# Altium schematic symbol library Integrated circuits.SchLib: 329 symbols (part 1 of 5)
Pins are listed as number, name and electrical type; pins without a type are passive.

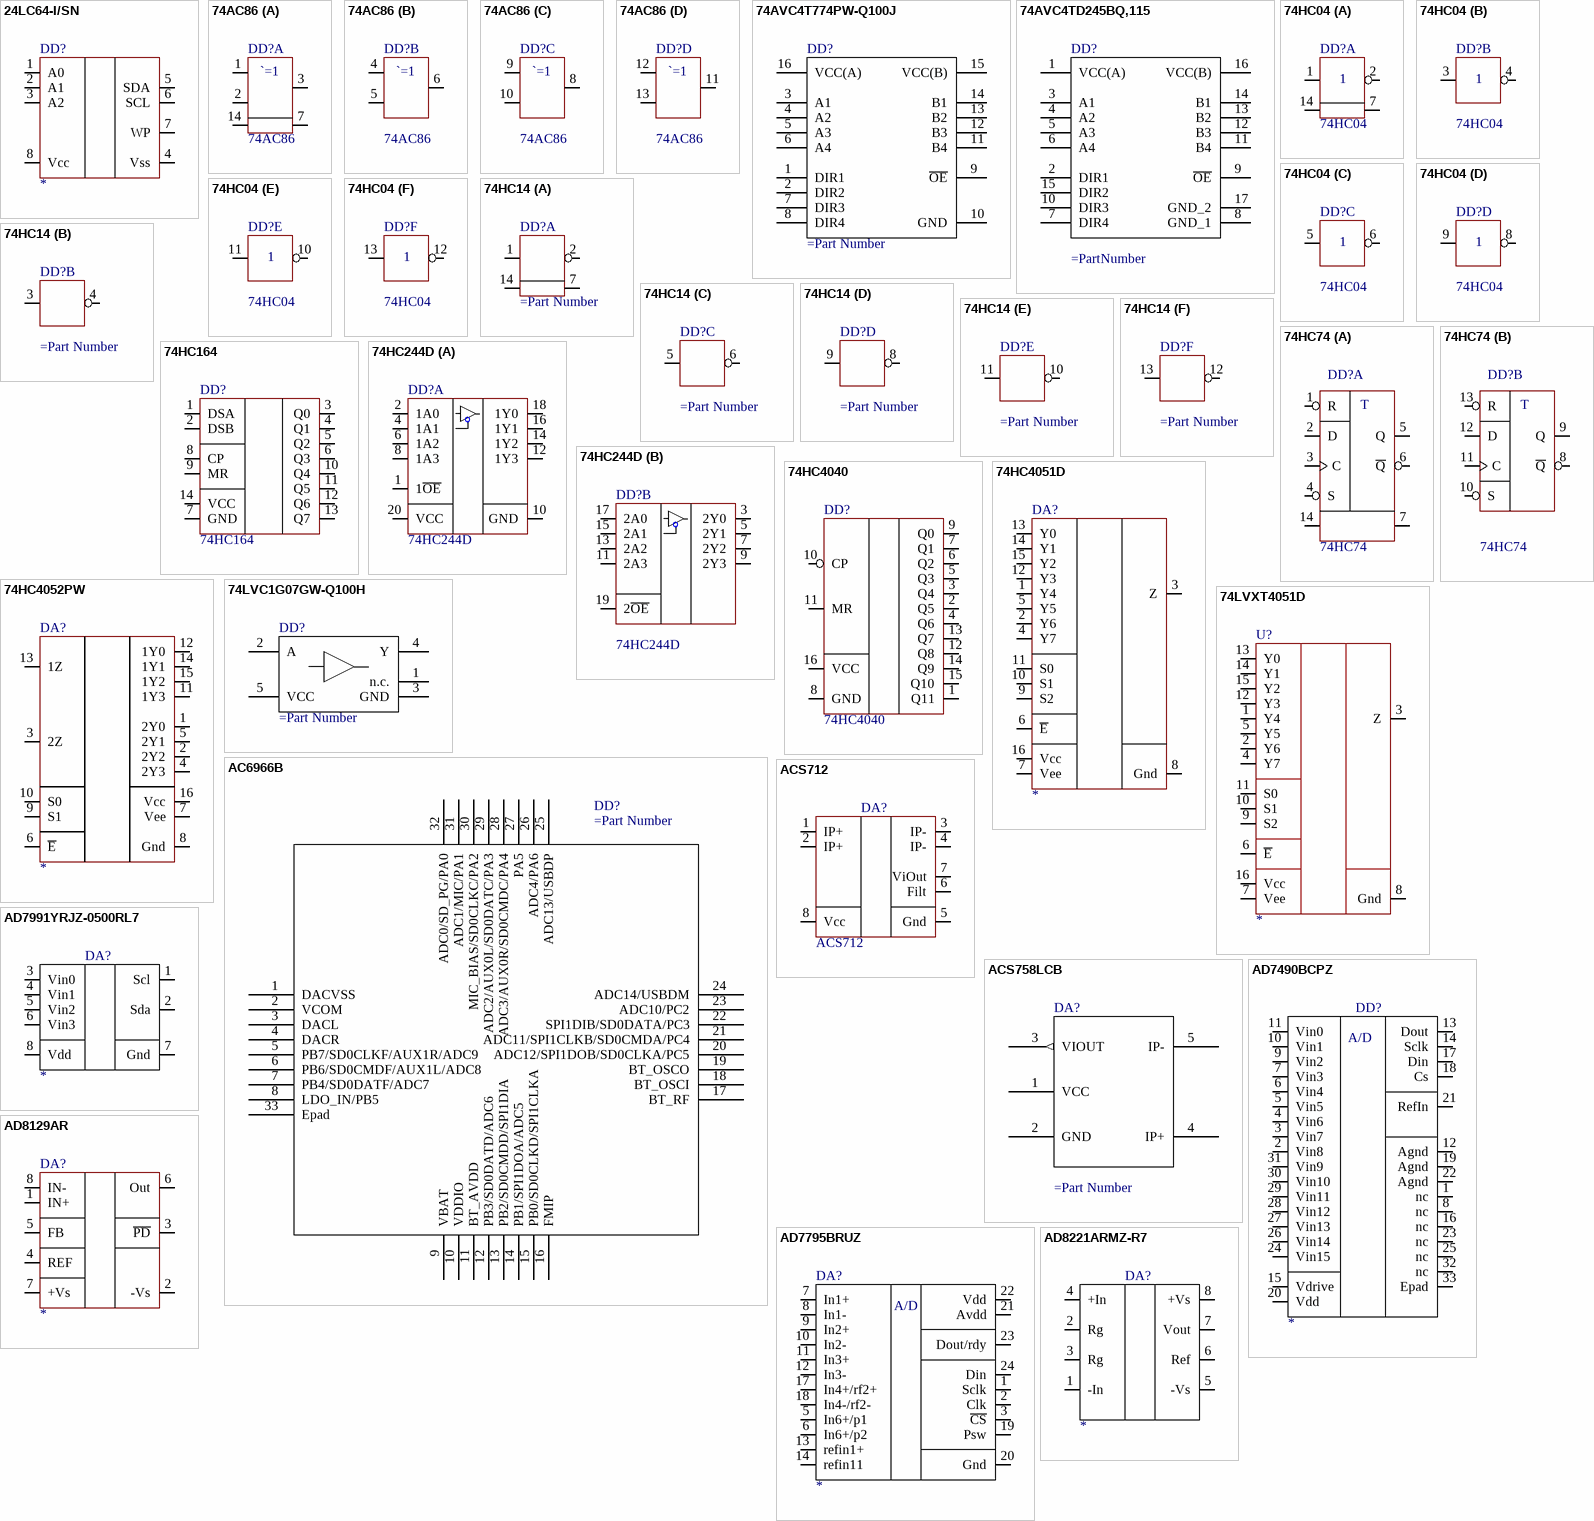
[diagram p0: symbols 24LC64-I/SN to AD8221ARMZ-R7]

## 24LC64-I/SN
designator DD?
pins: 1 A0, 2 A1, 3 A2, 4 Vss, 5 SDA, 6 SCL, 7 WP, 8 Vcc

## 74AC86
designator DD?
part A pins: 1, 2, 3, 7 GND (power), 14 VCC (power)
part B pins: 4, 5, 6
part C pins: 8 6, 9 4, 10 5
part D pins: 11 6, 12 4, 13 5
part A text: `=1
part B text: `=1
part C text: `=1
part D text: `=1

## 74AVC4T774PW-Q100J
designator DD?
pins: 1 DIR1, 2 DIR2, 3 A1, 4 A2, 5 A3, 6 A4, 7 DIR3, 8 DIR4, 9 ~{OE}, 10 GND, 11 B4, 12 B3, 13 B2, 14 B1, 15 VCC(B), 16 VCC(A)

## 74AVC4TD245BQ,115
designator DD?
Integrated Circuit; Manufacturer_Name: Nexperia; Manufacturer_Part_Number: 74AVC4TD245BQ,115; Datasheet Link: https://assets.nexperia.com/documents/data-sheet/74AVC4TD245.pdf; Height: 1mm; Mouser Part Number: 771-74AVC4TD245BQ115; Mouser Price/Stock: https://www.mouser.co.uk/ProductDetail/Nexperia/74AVC4TD245BQ115?qs=A1cBxND5mHKWjRjBJXdcCA%3D%3D; Arrow Part Number: 74AVC4TD245BQ,115; Arrow Price/Stock: https://www.arrow.com/en/products/74avc4td245bq115/nexperia?region=nac
footprint 74AVC4TD245BQ115
pins: 1 VCC(A), 2 DIR1, 3 A1, 4 A2, 5 A3, 6 A4, 7 DIR4, 8 GND_1, 9 ~{OE}, 10 DIR3, 11 B4, 12 B3, 13 B2, 14 B1, 15 DIR2, 16 VCC(B), 17 GND_2

## 74HC04
designator DD?
part A pins: 1 1A, 2 1Y, 7 GND (power), 14 VCC (power)
part B pins: 3 2A, 4 2Y
part C pins: 5 3A, 6 3Y
part D pins: 8 4Y, 9 4A
part E pins: 10 5Y, 11 5A
part F pins: 12 6Y, 13 6A

## 74HC14
designator DD?
part A pins: 1 1A, 2 1Y, 7 GND (power), 14 VCC (power)
part B pins: 3 2A, 4 2Y
part C pins: 5 3A, 6 3Y
part D pins: 8 4Y, 9 4A
part E pins: 10 5Y, 11 5A
part F pins: 12 6Y, 13 6A

## 74HC74
designator DD?
part A pins: 1 R, 2 D, 3 C, 4 S, 5 Q, 6 ~{Q}, 7 GND, 14 VCC
part B pins: 8 ~{Q}, 9 Q, 10 S, 11 C, 12 D, 13 R
part A text: T
part B text: T

## 74HC164
designator DD?
pins: 1 DSA, 2 DSB, 3 Q0, 4 Q1, 5 Q2, 6 Q3, 7 GND, 8 CP, 9 MR, 10 Q4, 11 Q5, 12 Q6, 13 Q7, 14 VCC

## 74HC244D
designator DD?
part A pins: 1 1~{OE}, 2 1A0, 4 1A1, 6 1A2, 8 1A3, 10 GND, 12 1Y3, 14 1Y2, 16 1Y1, 18 1Y0, 20 VCC
part B pins: 3 2Y0, 5 2Y1, 7 2Y2, 9 2Y3, 11 2A3, 13 2A2, 15 2A1, 17 2A0, 19 2~{OE}

## 74HC4040
designator DD?
pins: 1 Q11, 2 Q5, 3 Q4, 4 Q6, 5 Q3, 6 Q2, 7 Q1, 8 GND, 9 Q0, 10 CP, 11 MR, 12 Q8, 13 Q7, 14 Q9, 15 Q10, 16 VCC

## 74HC4051D
designator DA?
pins: 1 Y4, 2 Y6, 3 Z, 4 Y7, 5 Y5, 6 ~{E}, 7 Vee, 8 Gnd, 9 S2, 10 S1, 11 S0, 12 Y3, 13 Y0, 14 Y1, 15 Y2, 16 Vcc

## 74HC4052PW
designator DA?
pins: 1 2Y0, 2 2Y2, 3 2Z, 4 2Y3, 5 2Y1, 6 ~{E}, 7 Vee, 8 Gnd, 9 S1, 10 S0, 11 1Y3, 12 1Y0, 13 1Z, 14 1Y1, 15 1Y2, 16 Vcc

## 74LVC1G07GW-Q100H
designator DD?
Integrated Circuit; Manufacturer_Name: Nexperia; Manufacturer_Part_Number: 74LVC1G07GW-Q100H; Datasheet Link: https://assets.nexperia.com/documents/data-sheet/74LVC1G07_Q100.pdf; Height: 1.1mm; Mouser Part Number: 771-74LVC1G07GWQ100H; Mouser Price/Stock: https://www.mouser.co.uk/ProductDetail/Nexperia/74LVC1G07GW-Q100H?qs=fi7yB2oewZl3%2F7nWLn11fw%3D%3D; Arrow Part Number: 74LVC1G07GW-Q100H; Arrow Price/Stock: https://www.arrow.com/en/products/74lvc1g07gw-q100h/nexperia
footprint SOT65P212X110-5N
pins: 1 n.c., 2 A, 3 GND, 4 Y, 5 VCC

## 74LVXT4051D
designator U?
pins: 1 Y4, 2 Y6, 3 Z, 4 Y7, 5 Y5, 6 ~{E}, 7 Vee, 8 Gnd, 9 S2, 10 S1, 11 S0, 12 Y3, 13 Y0, 14 Y1, 15 Y2, 16 Vcc

## AC6966B
designator DD?
pins: 1 DACVSS, 2 VCOM, 3 DACL, 4 DACR, 5 PB7/SD0CLKF/AUX1R/ADC9, 6 PB6/SD0CMDF/AUX1L/ADC8, 7 PB4/SD0DATF/ADC7, 8 LDO_IN/PB5, 9 VBAT, 10 VDDIO, 11 BT_AVDD, 12 PB3/SD0DATD/ADC6, 13 PB2/SD0CMDD/SPI1DIA, 14 PB1/SPI1DOA/ADC5, 15 PB0/SD0CLKD/SPI1CLKA, 16 FMIP, 17 BT_RF, 18 BT_OSCI, 19 BT_OSCO, 20 ADC12/SPI1DOB/SD0CLKA/PC5, 21 ADC11/SPI1CLKB/SD0CMDA/PC4, 22 SPI1DIB/SD0DATA/PC3, 23 ADC10/PC2, 24 ADC14/USBDM, 25 ADC13/USBDP, 26 ADC4/PA6, 27 PA5, 28 ADC3/AUX0R/SD0CMDC/PA4, 29 ADC2/AUX0L/SD0DATC/PA3, 30 MIC_BIAS/SD0CLKC/PA2, 31 ADC1/MIC/PA1, 32 ADC0/SD_PG/PA0, 33 Epad

## ACS712
designator DA?
pins: 1 IP+, 2 IP+, 3 IP-, 4 IP-, 5 Gnd, 6 Filt, 7 ViOut, 8 Vcc

## ACS758LCB
designator DA?
pins: 1 VCC, 2 GND, 3 VIOUT (out), 4 IP+, 5 IP-

## AD7490BCPZ
designator DD?
pins: 1 nc, 2 Vin8, 3 Vin7, 4 Vin6, 5 Vin5, 6 Vin4, 7 Vin3, 8 nc, 9 Vin2, 10 Vin1, 11 Vin0, 12 Agnd, 13 Dout, 14 Sclk, 15 Vdrive, 16 nc, 17 Din, 18 Cs, 19 Agnd, 20 Vdd, 21 RefIn, 22 Agnd, 23 nc, 24 Vin15, 25 nc, 26 Vin14, 27 Vin13, 28 Vin12, 29 Vin11, 30 Vin10, 31 Vin9, 32 nc, 33 Epad
text: A/D

## AD7795BRUZ
designator DA?
pins: 1 Sclk, 2 Clk, 3 ~{CS}, 5 In6+/p1, 6 In6+/p2, 7 In1+, 8 In1-, 9 In2+, 10 In2-, 11 In3+, 12 In3-, 13 refin1+, 14 refin11, 17 In4+/rf2+, 18 In4-/rf2-, 19 Psw, 20 Gnd, 21 Avdd, 22 Vdd, 23 Dout/rdy, 24 Din
text: A/D

## AD7991YRJZ-0500RL7
designator DA?
pins: 1 Scl, 2 Sda, 3 Vin0, 4 Vin1, 5 Vin2, 6 Vin3, 7 Gnd, 8 Vdd

## AD8129AR
designator DA?
pins: 1 IN+, 2 -Vs, 3 ~{PD}, 4 REF, 5 FB, 6 Out, 7 +Vs, 8 IN-

## AD8221ARMZ-R7
designator DA?
pins: 1 -In, 2 Rg, 3 Rg, 4 +In, 5 -Vs, 6 Ref, 7 Vout, 8 +Vs

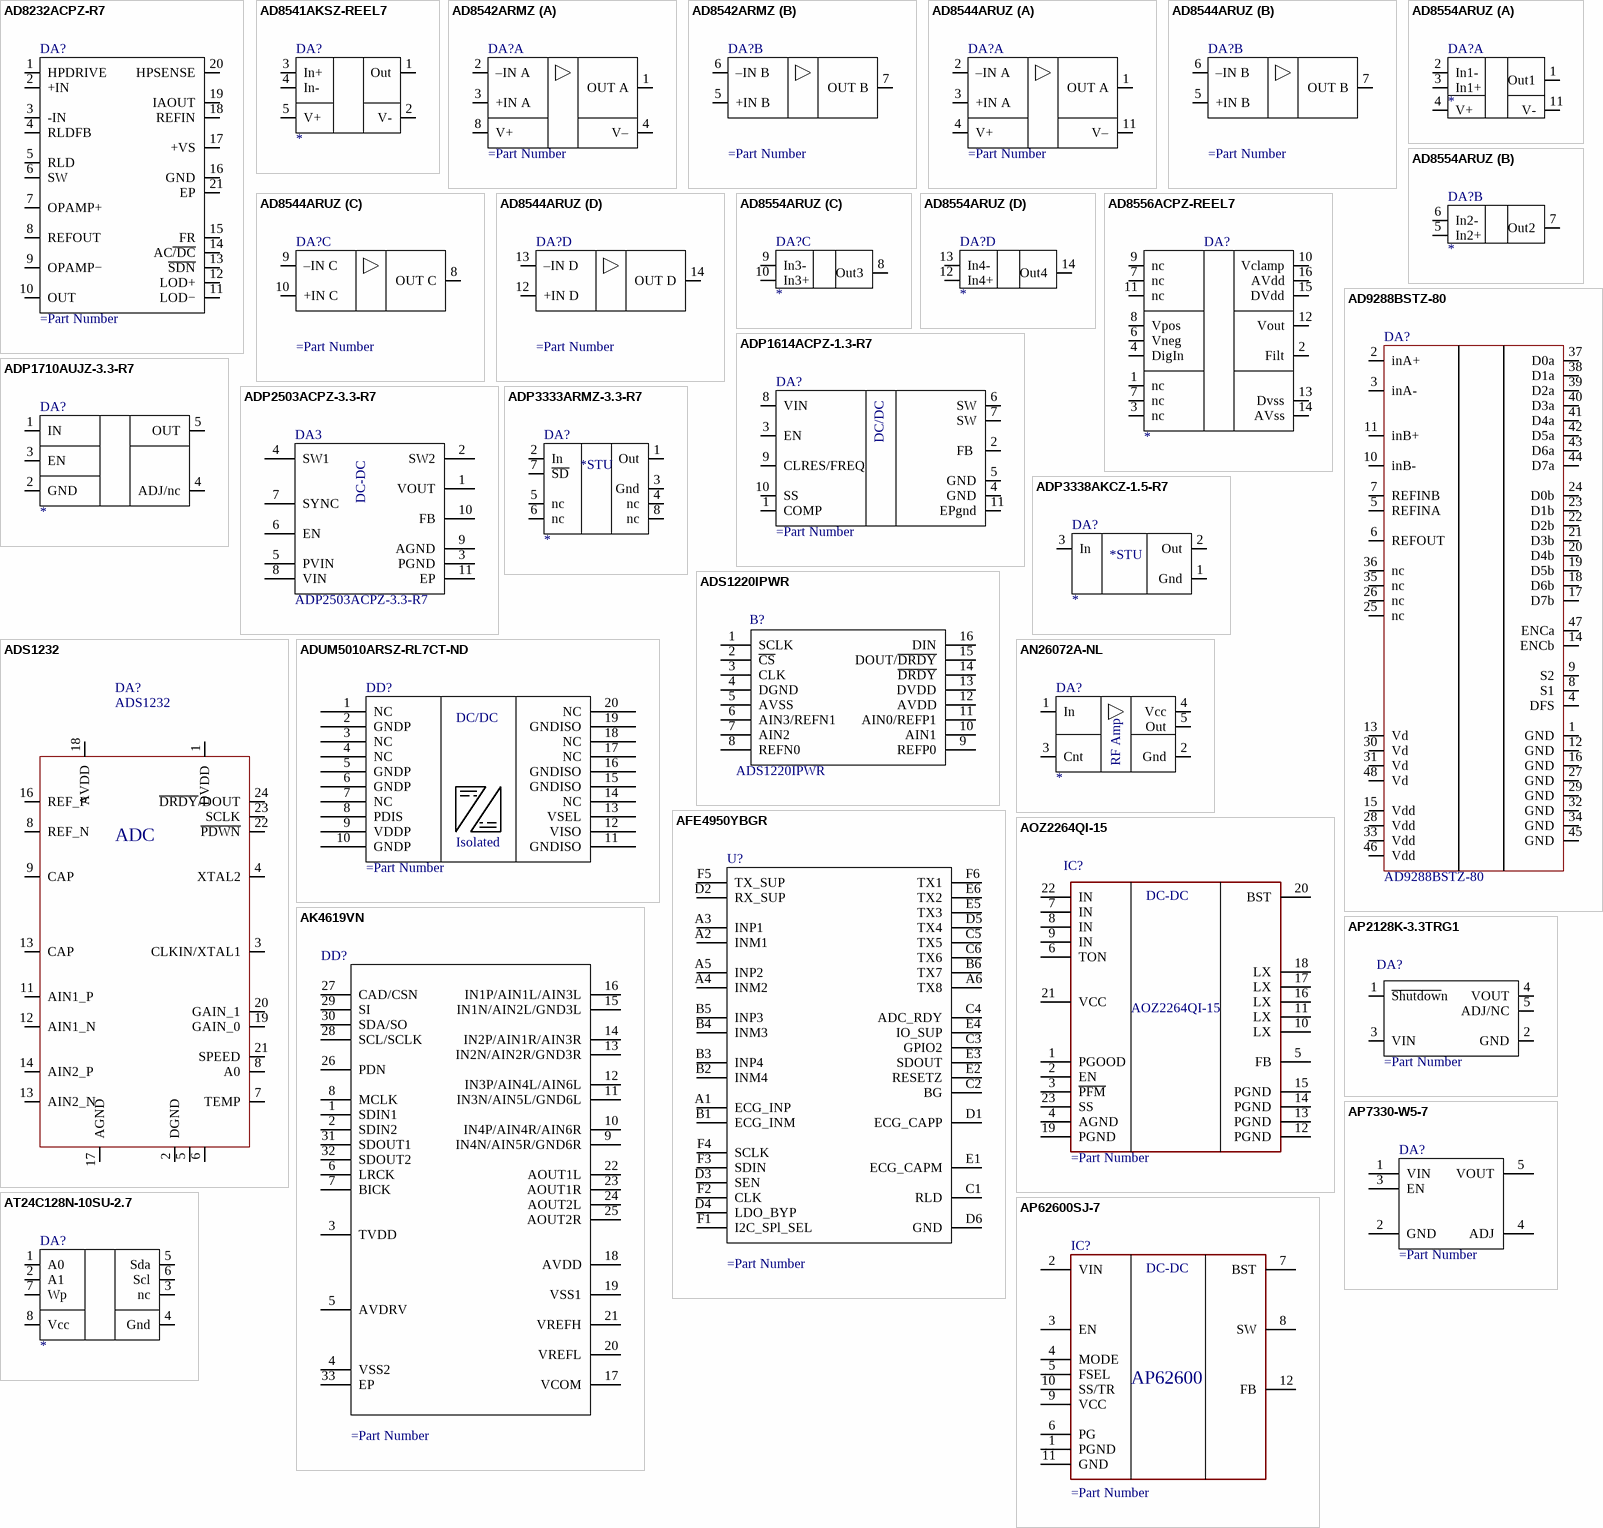
[diagram p1: symbols AD8232ACPZ-R7 to AT24C128N-10SU-2.7]

## AD8232ACPZ-R7
designator DA?
pins: 1 HPDRIVE, 2 +IN, 3 -IN, 4 RLDFB, 5 RLD, 6 SW, 7 OPAMP+, 8 REFOUT, 9 OPAMP−, 10 OUT, 11 LOD−, 12 LOD+, 13 ~{SDN}, 14 AC~{/DC}, 15 FR, 16 GND, 17 +VS, 18 REFIN, 19 IAOUT, 20 HPSENSE, 21 EP

## AD8541AKSZ-REEL7
designator DA?
pins: 1 Out, 2 V-, 3 In+, 4 In-, 5 V+

## AD8542ARMZ
designator DA?
part A pins: 1 OUT A, 2 –IN A, 3 +IN A, 4 V–, 8 V+
part B pins: 5 +IN B, 6 –IN B, 7 OUT B

## AD8544ARUZ
designator DA?
part A pins: 1 OUT A, 2 –IN A, 3 +IN A, 4 V+, 11 V–
part B pins: 5 +IN B, 6 –IN B, 7 OUT B
part C pins: 8 OUT C, 9 –IN C, 10 +IN C
part D pins: 12 +IN D, 13 –IN D, 14 OUT D

## AD8554ARUZ
designator DA?
part A pins: 1 Out1, 2 In1-, 3 In1+, 4 V+, 11 V-
part B pins: 5 In2+, 6 In2-, 7 Out2
part C pins: 8 Out3, 9 In3-, 10 In3+
part D pins: 12 In4+, 13 In4-, 14 Out4

## AD8556ACPZ-REEL7
designator DA?
pins: 1 nc, 2 Filt, 3 nc, 4 DigIn, 6 Vneg, 7 nc, 7 nc, 8 Vpos, 9 nc, 10 Vclamp, 11 nc, 12 Vout, 13 Dvss, 14 AVss, 15 DVdd, 16 AVdd

## AD9288BSTZ-80
designator DA?
pins: 1 GND, 2 inA+, 3 inA-, 4 DFS, 5 REFINA, 6 REFOUT, 7 REFINB, 8 S1, 9 S2, 10 inB-, 11 inB+, 12 GND, 13 Vd, 14 ENCb, 15 Vdd, 16 GND, 17 D7b, 18 D6b, 19 D5b, 20 D4b, 21 D3b, 22 D2b, 23 D1b, 24 D0b, 25 nc, 26 nc, 27 GND, 28 Vdd, 29 GND, 30 Vd, 31 Vd, 32 GND, 33 Vdd, 34 GND, 35 nc, 36 nc, 37 D0a, 38 D1a, 39 D2a, 40 D3a, 41 D4a, 42 D5a, 43 D6a, 44 D7a, 45 GND, 46 Vdd, 47 ENCa, 48 Vd

## ADP1614ACPZ-1.3-R7
designator DA?
footprint 10-Lead LFCSP_WD
pins: 1 COMP, 2 FB , 3 EN , 4 GND, 5 GND, 6 SW, 7 SW, 8 VIN, 9 CLRES/FREQ, 10 SS, 11 EPgnd
text: DC/DC

## ADP1710AUJZ-3.3-R7
designator DA?
pins: 1 IN, 2 GND, 3 EN, 4 ADJ/nc, 5 OUT

## ADP2503ACPZ-3.3-R7
designator DA3
IC REG BCK BST 3.3V 10LFCSP; Manufacturer_Name: Analog Devices; Datasheet Link: http://www.analog.com/media/en/technical-documentation/data-sheets/ADP2503_2504.pdf; Height: 0.8mm; Manufacturer Part Number: ADP2503ACPZ-3.3-R7; Mouser Part Number: 584-ADP2503ACPZ3.3R7; Mouser Price/Stock: https://www.mouser.co.uk/ProductDetail/Analog-Devices/ADP2503ACPZ-33-R7?qs=WIvQP4zGanjswWPSVAh1NQ%3D%3D; Arrow Part Number: ADP2503ACPZ-3.3-R7; Arrow Price/Stock: https://www.arrow.com/en/products/adp2503acpz-3.3-r7/analog-devices?region=nac; Part Number: ADP2503ACPZ-3.3-R7; HelpURL: https://www.digikey.com/en/products/detail/analog-devices-inc/ADP2503ACPZ-3-3-R7/1971655; Price$: 2.83296; Digi-Key Part Number: 505-ADP2503ACPZ-3.3-R7TR-ND; Package: 10-LFCSP-WD (3x3)
footprint SON50P300X300X80-11N-D
pins: 1 VOUT, 2 SW2, 3 PGND, 4 SW1, 5 PVIN, 6 EN, 7 SYNC, 8 VIN, 9 AGND, 10 FB, 11 EP
text: DC-DC

## ADP3333ARMZ-3.3-R7
designator DA?
pins: 1 Out, 2 In, 3 Gnd, 4 nc, 5 nc, 6 nc, 7 ~{SD}, 8 nc
text: *STU

## ADP3338AKCZ-1.5-R7
designator DA?
pins: 1 Gnd, 2 Out, 3 In
text: *STU

## ADS1220IPWR
designator B?
24-bit, 2-kSPS, 4-ch, low-power, small-size delta-sigma ADC w/ PGA, VREF, 2x IDACs & SPI interface; Manufacturer_Name: Texas Instruments; Geometry.Height: 1.2mm; Mouser Part Number: 595-ADS1220IPWR; Mouser Price/Stock: https://www.mouser.co.uk/ProductDetail/Texas-Instruments/ADS1220IPWR?qs=5GI1giJCN%252BI6s%2FWJGbZXXQ%3D%3D; Manufacturer_Part_Number: ADS1220IPWR; Datasheet Link: http://www.ti.com/lit/gpn/ads1220
footprint SOP65P640X120-16N
pins: 1 SCLK, 2 ~{CS}, 3 CLK, 4 DGND, 5 AVSS, 6 AIN3/REFN1, 7 AIN2, 8 REFN0, 9 REFP0, 10 AIN1, 11 AIN0/REFP1, 12 AVDD, 13 DVDD, 14 ~{DRDY}, 15 DOUT/~{DRDY}, 16 DIN

## ADS1232
designator DA?
pins: 1 DVDD, 2 DGND, 3 CLKIN/XTAL1, 4 XTAL2, 5 DGND, 6 DGND, 7 TEMP, 8 REF_N, 8 A0, 9 CAP, 11 AIN1_P, 12 AIN1_N, 13 AIN2_N, 13 CAP, 14 AIN2_P, 16 REF_P, 17 AGND, 18 AVDD, 19 GAIN_0, 20 GAIN_1, 21 SPEED, 22 ~{PDWN}, 23 SCLK, 24 ~{DRDY}/DOUT
text: ADC

## ADUM5010ARSZ-RL7CT-ND
designator DD?
pins: 1 NC, 2 GNDP, 3 NC, 4 NC, 5 GNDP, 6 GNDP, 7 NC, 8 PDIS, 9 VDDP, 10 GNDP, 11 GNDISO, 12 VISO, 13 VSEL, 14 NC, 15 GNDISO, 16 GNDISO, 17 NC, 18 NC, 19 GNDISO, 20 NC
text: DC/DC; Isolated

## AFE4950YBGR
designator U?
pins: A1 ECG_INP, A2 INM1, A3 INP1, A4 INM2, A5 INP2, A6 TX8, B1 ECG_INM, B2 INM4, B3 INP4, B4 INM3, B5 INP3, B6 TX7, C1 RLD, C2 BG, C3 GPIO2, C4 ADC_RDY, C5 TX5, C6 TX6, D1 ECG_CAPP, D2 RX_SUP, D3 SEN, D4 LDO_BYP, D5 TX4, D6 GND, E1 ECG_CAPM, E2 RESETZ, E3 SDOUT, E4 IO_SUP, E5 TX3, E6 TX2, F1 I2C_SPl_SEL, F2 CLK, F3 SDIN, F4 SCLK, F5 TX_SUP, F6 TX1

## AK4619VN
designator DD?
pins: 1 SDIN1, 2 SDIN2, 3 TVDD, 4 VSS2, 5 AVDRV, 6 LRCK, 7 BICK, 8 MCLK, 9 IN4N/AIN5R/GND6R, 10 IN4P/AIN4R/AIN6R, 11 IN3N/AIN5L/GND6L, 12 IN3P/AIN4L/AIN6L, 13 IN2N/AIN2R/GND3R, 14 IN2P/AIN1R/AIN3R, 15 IN1N/AIN2L/GND3L, 16 IN1P/AIN1L/AIN3L, 17 VCOM, 18 AVDD, 19 VSS1, 20 VREFL, 21 VREFH, 22 AOUT1L, 23 AOUT1R, 24 AOUT2L, 25 AOUT2R, 26 PDN, 27 CAD/CSN, 28 SCL/SCLK, 29 SI, 30 SDA/SO, 31 SDOUT1, 32 SDOUT2, 33 EP

## AN26072A-NL
designator DA?
pins: 1 In, 2 Gnd, 3 Cnt, 4 Vcc, 5 Out
text: RF Amp

## AOZ2264QI-15
designator IC?
pins: 1 PGOOD, 2 EN, 3 ~{PFM}, 4 AGND, 5 FB, 6 TON, 7 IN, 8 IN, 9 IN, 10 LX, 11 LX, 12 PGND, 13 PGND, 14 PGND, 15 PGND, 16 LX, 17 LX, 18 LX, 19 PGND, 20 BST, 21 VCC, 22 IN, 23 SS
text: DC-DC

## AP2128K-3.3TRG1
designator DA?
pins: 1 ~{Shutdow}n, 2 GND, 3 VIN, 4 VOUT, 5 ADJ/NC

## AP7330-W5-7
designator DA?
IC REG LIN POS ADJ 300MA SOT25; Manufacturer_Name: Diodes Inc.; Manufacturer_Part_Number: AP7330-W5-7; Datasheet Link: https://www.mouser.com/datasheet/2/115/AP7330-1274896.pdf; Height: 1.4mm; Mouser Part Number: 621-AP7330-W5-7; Mouser Price/Stock: https://www.mouser.co.uk/ProductDetail/Diodes-Incorporated/AP7330-W5-7?qs=W0yvOO0ixfHHAfw2PUMgbw%3D%3D; Arrow Part Number: AP7330-W5-7; Arrow Price/Stock: https://www.arrow.com/en/products/ap7330-w5-7/diodes-incorporated
footprint SOT95P285X140-5N
pins: 1 VIN, 2 GND, 3 EN, 4 ADJ, 5 VOUT

## AP62600SJ-7
designator IC?
Integrated Circuit; Manufacturer_Name: Diodes Incorporated; Manufacturer_Part_Number: AP62600SJ-7; Datasheet Link: https://www.diodes.com/assets/Datasheets/AP62600.pdf; Height: 0.85mm; Mouser Part Number: 621-AP62600SJ-7; Mouser Price/Stock: https://www.mouser.co.uk/ProductDetail/Diodes-Incorporated/AP62600SJ-7?qs=YwPsRIUVAOfXWaIYwzamKw%3D%3D; Arrow Part Number: AP62600SJ-7; Arrow Price/Stock: null?region=nac
footprint AP62600SJ7
pins: 1 PGND, 2 VIN, 3 EN, 4 MODE, 5 FSEL, 6 PG, 7 BST, 8 SW, 9 VCC, 10 SS/TR, 11 GND, 12 FB
text: DC-DC; AP62600

## AT24C128N-10SU-2.7
designator DA?
pins: 1 A0, 2 A1, 3 nc, 4 Gnd, 5 Sda, 6 Scl, 7 Wp, 8 Vcc

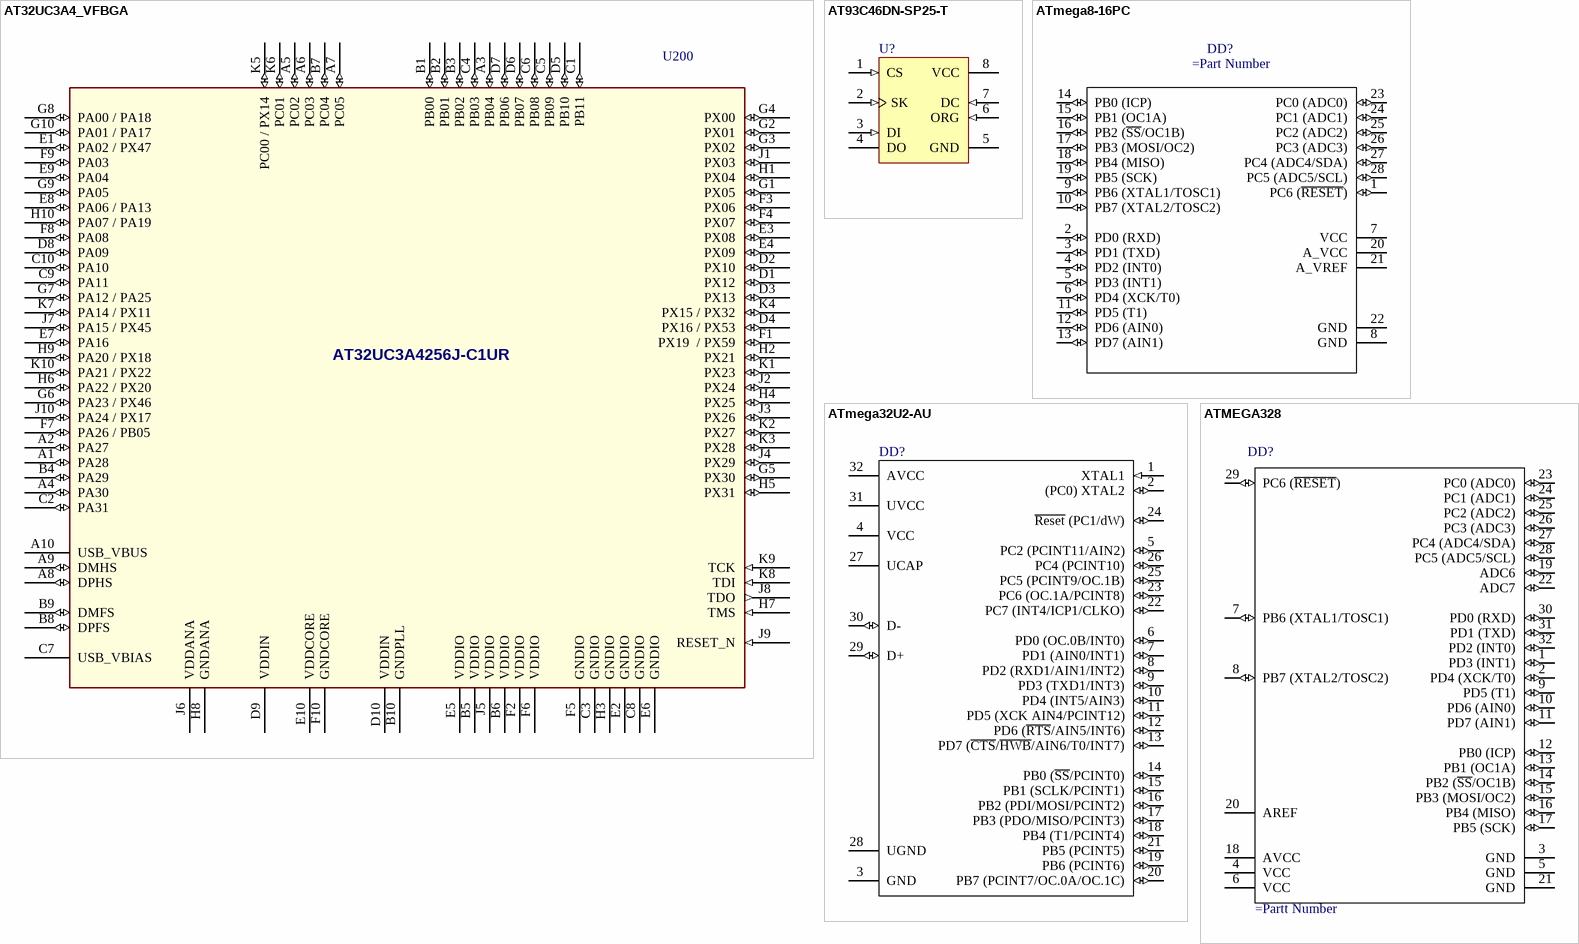
[diagram p2: symbols AT32UC3A4_VFBGA to ATMEGA328]

## AT32UC3A4_VFBGA
designator U200, comment value AT32UC3A4256J-C1UR  (hidden comment: 100 ball VFBGA)
EDBG controller; PartGroup: Integrated Circuits,MCU, MPU, DSP,AVR MCU; Manufacturer: ATMEL; AN: A06-0736; TemperatureRange: -40 to +85 deg C; ComponentStatus: 'Active (verified)'; Status: Not verified; Height: 1; MPN: AT32UC3A4256J-C1UR; FootprintStatus: 'Active (Verified)'
footprint AP6-00206
pins: A1 PA28 (io), A2 PA27 (io), A3 PB04 (io), A4 PA30 (io), A5 PC02 (io), A6 PC03 (io), A7 PC05 (io), A8 DPHS (io), A9 DMHS (io), A10 USB_VBUS (power), B1 PB00 (io), B2 PB01 (io), B3 PB02 (io), B4 PA29 (io), B5 VDDIO (power), B6 VDDIO (power), B7 PC04 (io), B8 DPFS (io), B9 DMFS (io), B10 GNDPLL (power), C1 PB11 (io), C2 PA31 (io), C3 GNDIO (power), C4 PB03 (io), C5 PB09 (io), C6 PB08 (io), C7 USB_VBIAS (power), C8 GNDIO (power), C9 PA11 (io), C10 PA10 (io), D1 PX12 (io), D2 PX10 (io), D3 PX13 (io), D4 PX16 / PX53 (io), D5 PB10 (io), D6 PB07 (io), D7 PB06 (io), D8 PA09 (io), D9 VDDIN (power), D10 VDDIN (power), E1 PA02 / PX47 (io), E2 GNDIO (power), E3 PX08 (io), E4 PX09 (io), E5 VDDIO (power), E6 GNDIO (power), E7 PA16 (io), E8 PA06 / PA13 (io), E9 PA04 (io), E10 VDDCORE (power), F1 PX19  / PX59 (io), F2 VDDIO (power), F3 PX06 (io), F4 PX07 (io), F5 GNDIO (power), F6 VDDIO (power), F7 PA26 / PB05 (io), F8 PA08 (io), F9 PA03 (io), F10 GNDCORE (power), G1 PX05 (io), G2 PX01 (io), G3 PX02 (io), G4 PX00 (io), G5 PX30 (io), G6 PA23 / PX46 (io), G7 PA12 / PA25 (io), G8 PA00 / PA18 (io), G9 PA05 (io), G10 PA01 / PA17 (io), H1 PX04 (io), H2 PX21 (io), H3 GNDIO (power), H4 PX25 (io), H5 PX31 (io), H6 PA22 / PX20 (io), H7 TMS (in), H8 GNDANA (power), H9 PA20 / PX18 (io), H10 PA07 / PA19 (io), J1 PX03 (io), J2 PX24 (io), J3 PX26 (io), J4 PX29 (io), J5 VDDIO (power), J6 VDDANA (power), J7 PA15 / PX45 (io), J8 TDO (out), J9 RESET_N (in), J10 PA24 / PX17 (io), K1 PX23 (io), K2 PX27 (io), K3 PX28 (io), K4 PX15 / PX32 (io), K5 PC00 / PX14 (io), K6 PC01 (io), K7 PA14 / PX11 (io), K8 TDI (in), K9 TCK (in), K10 PA21 / PX22 (io)

## AT93C46DN-SP25-T
designator U?
1Kbit (128 x 8 or 64 x 16), 3-wire Bus Serial Automotive EEPROM, 2.5V, 8-Pin SOIC, Tape & Reel; Published: 20-Sep-2010; DatasheetVersion: 8674B,  Oct-2009; PackageVersion: revC, Mar-2005; PackageReference: 8S1; Publisher: Altium Limited; PackageDescription: 8-Lead (0.150" Wide Body), Plastic Gull Wing Small Outline (JEDEC SOIC); Code_JEDEC: MS-012-AA; Code_IPC: SOIC127P600-8; ComponentLink1Description: Manufacturer Link; ComponentLink1URL: http://www.atmel.com/products/serial/default.asp; ComponentLink2Description: Datasheet; ComponentLink2URL: http://www.atmel.com/dyn/resources/prod_documents/doc8674.pdf; ComponentLink3Description: Atmel.com Home; ComponentLink3URL: http://www.atmel.com
pins: 1 CS (in), 2 SK (in), 3 DI (in), 4 DO (hiz), 5 GND (power), 6 ORG (in), 7 DC (in), 8 VCC (power)

## ATmega8-16PC
designator DD?
8-Bit AVR Microcontroller with 8K Bytes of In-System Programmable Flash Memory; Published: 17-Sep-2003; DatasheetVersion: 2486H-AVR-09/02; PackageVersion: revB, Sep-2001; PackageReference: 28P3; Publisher: Altium Limited; PackageDescription: 28-lead (0.300"/7.62mm Wide) Plastic Dual Inline Package (PDIP); Supplier 1: Digi-Key; Supplier Part Number 1: ATMEGA8-16PC-ND; Supplier 2: Mouser; Supplier Part Number 2: 556-ATMEGA8-16PC; ComponentLink1Description: Datasheet; ComponentLink1URL: http://www.atmel.com/dyn/resources/prod_documents/doc2486.pdf; ComponentLink2Description: Atmel.com Home; ComponentLink2URL: http://www.atmel.com
footprint 28P3 (DIP, 28-Leads, Row Spacing 7.62mm, Pitch 2.54mm, Body 34.67x7.3mm)
pins: 1 PC6 (~{RESET}) (io), 2 PD0 (RXD) (io), 3 PD1 (TXD) (io), 4 PD2 (INT0) (io), 5 PD3 (INT1) (io), 6 PD4 (XCK/T0) (io), 7 VCC, 8 GND (power), 9 PB6 (XTAL1/TOSC1) (io), 10 PB7 (XTAL2/TOSC2) (io), 11 PD5 (T1) (io), 12 PD6 (AIN0) (io), 13 PD7 (AIN1) (io), 14 PB0 (ICP) (io), 15 PB1 (OC1A) (io), 16 PB2 (~{SS}/OC1B) (io), 17 PB3 (MOSI/OC2) (io), 18 PB4 (MISO) (io), 19 PB5 (SCK) (io), 20 A_VCC, 21 A_VREF, 22 GND (power), 23 PC0 (ADC0) (io), 24 PC1 (ADC1) (io), 25 PC2 (ADC2) (io), 26 PC3 (ADC3) (io), 27 PC4 (ADC4/SDA) (io), 28 PC5 (ADC5/SCL) (io)

## ATmega32U2-AU
designator DD?
8-bit AVR Microcontroller, 2.7-5.5V, 32KB Flash, 1KB EEPROM, 1KB SRAM, 32-pin TQFP, Industrial Grade (-40°C to 85°C); Published: 1-Apr-2010; DatasheetVersion: revC, Dec-2009; PackageVersion: revB, Oct-2001; PackageReference: 32A; Publisher: Altium Limited; PackageDescription: 32-Lead, 7x7x1.0 mm Body, 0.8mm Lead Pitch, Thin Profile Plastic Quad Flat Package (TQFP); Supplier 1: Digi-Key; Supplier Part Number 1: ATMEGA32U2-AU-ND; Supplier 2: Farnell; Supplier Part Number 2: 1748524; Supplier 3: Mouser; Supplier Part Number 3: 556-ATMEGA32U2-AU; Code_JEDEC: MS-026-ABA; ComponentLink1Description: Manufacturer Link; ComponentLink1URL: http://www.atmel.com/products/avr/default.asp?; ComponentLink2Description: ATmega8U2/16U2/32U2 Datasheet; ComponentLink2URL: http://www.atmel.com/dyn/resources/prod_documents/doc7799.pdf; ComponentLink3Description: ATmega8U2/16U2/32U2 Summary; ComponentLink3URL: http://www.atmel.com/dyn/resources/prod_documents/7799S.pdf; ComponentLink4Description: Atmel.com Home; ComponentLink4URL: http://www.atmel.com
footprint 32A_N (Thin QFP, 32-Leads, Body 7x7mm, Pitch 0.8mm, IPC Medium Density)
footprint 32A_L (Thin QFP, 32-Leads, Body 7x7mm, Pitch 0.8mm, IPC High Density)
footprint 32A_M (Thin QFP, 32-Leads, Body 7x7mm, Pitch 0.8mm, IPC Low Density)
pins: 1 XTAL1 (in), 2 (PC0) XTAL2 (io), 3 GND (power), 4 VCC (power), 5 PC2 (PCINT11/AIN2) (io), 6 PD0 (OC.0B/INT0) (io), 7 PD1 (AIN0/INT1) (io), 8 PD2 (RXD1/AIN1/INT2) (io), 9 PD3 (TXD1/INT3) (io), 10 PD4 (INT5/AIN3) (io), 11 PD5 (XCK AIN4/PCINT12) (io), 12 PD6 (~{RTS}/AIN5/INT6) (io), 13 PD7 (~{CTS}/~{HWB}/AIN6/T0/INT7) (io), 14 PB0 (~{SS}/PCINT0) (io), 15 PB1 (SCLK/PCINT1) (io), 16 PB2 (PDI/MOSI/PCINT2) (io), 17 PB3 (PDO/MISO/PCINT3) (io), 18 PB4 (T1/PCINT4) (io), 19 PB6 (PCINT6) (io), 20 PB7 (PCINT7/OC.0A/OC.1C) (io), 21 PB5 (PCINT5) (io), 22 PC7 (INT4/ICP1/CLKO) (io), 23 PC6 (OC.1A/PCINT8) (io), 24 ~{Reset} (PC1/dW) (io), 25 PC5 (PCINT9/OC.1B) (io), 26 PC4 (PCINT10) (io), 27 UCAP (power), 28 UGND (power), 29 D+ (io), 30 D- (io), 31 UVCC (power), 32 AVCC (power)

## ATMEGA328
designator DD?
pins: 1 PD3 (INT1) (io), 2 PD4 (XCK/T0) (io), 3 GND (power), 4 VCC (power), 5 GND (power), 6 VCC (power), 7 PB6 (XTAL1/TOSC1) (io), 8 PB7 (XTAL2/TOSC2) (io), 9 PD5 (T1) (io), 10 PD6 (AIN0) (io), 11 PD7 (AIN1) (io), 12 PB0 (ICP) (io), 13 PB1 (OC1A) (io), 14 PB2 (~{SS}/OC1B) (io), 15 PB3 (MOSI/OC2) (io), 16 PB4 (MISO) (io), 17 PB5 (SCK) (io), 18 AVCC (power), 19 ADC6 (io), 20 AREF, 21 GND (power), 22 ADC7 (io), 23 PC0 (ADC0) (io), 24 PC1 (ADC1) (io), 25 PC2 (ADC2) (io), 26 PC3 (ADC3) (io), 27 PC4 (ADC4/SDA) (io), 28 PC5 (ADC5/SCL) (io), 29 PC6 (~{RESET}) (io), 30 PD0 (RXD) (io), 31 PD1 (TXD) (io), 32 PD2 (INT0) (io)

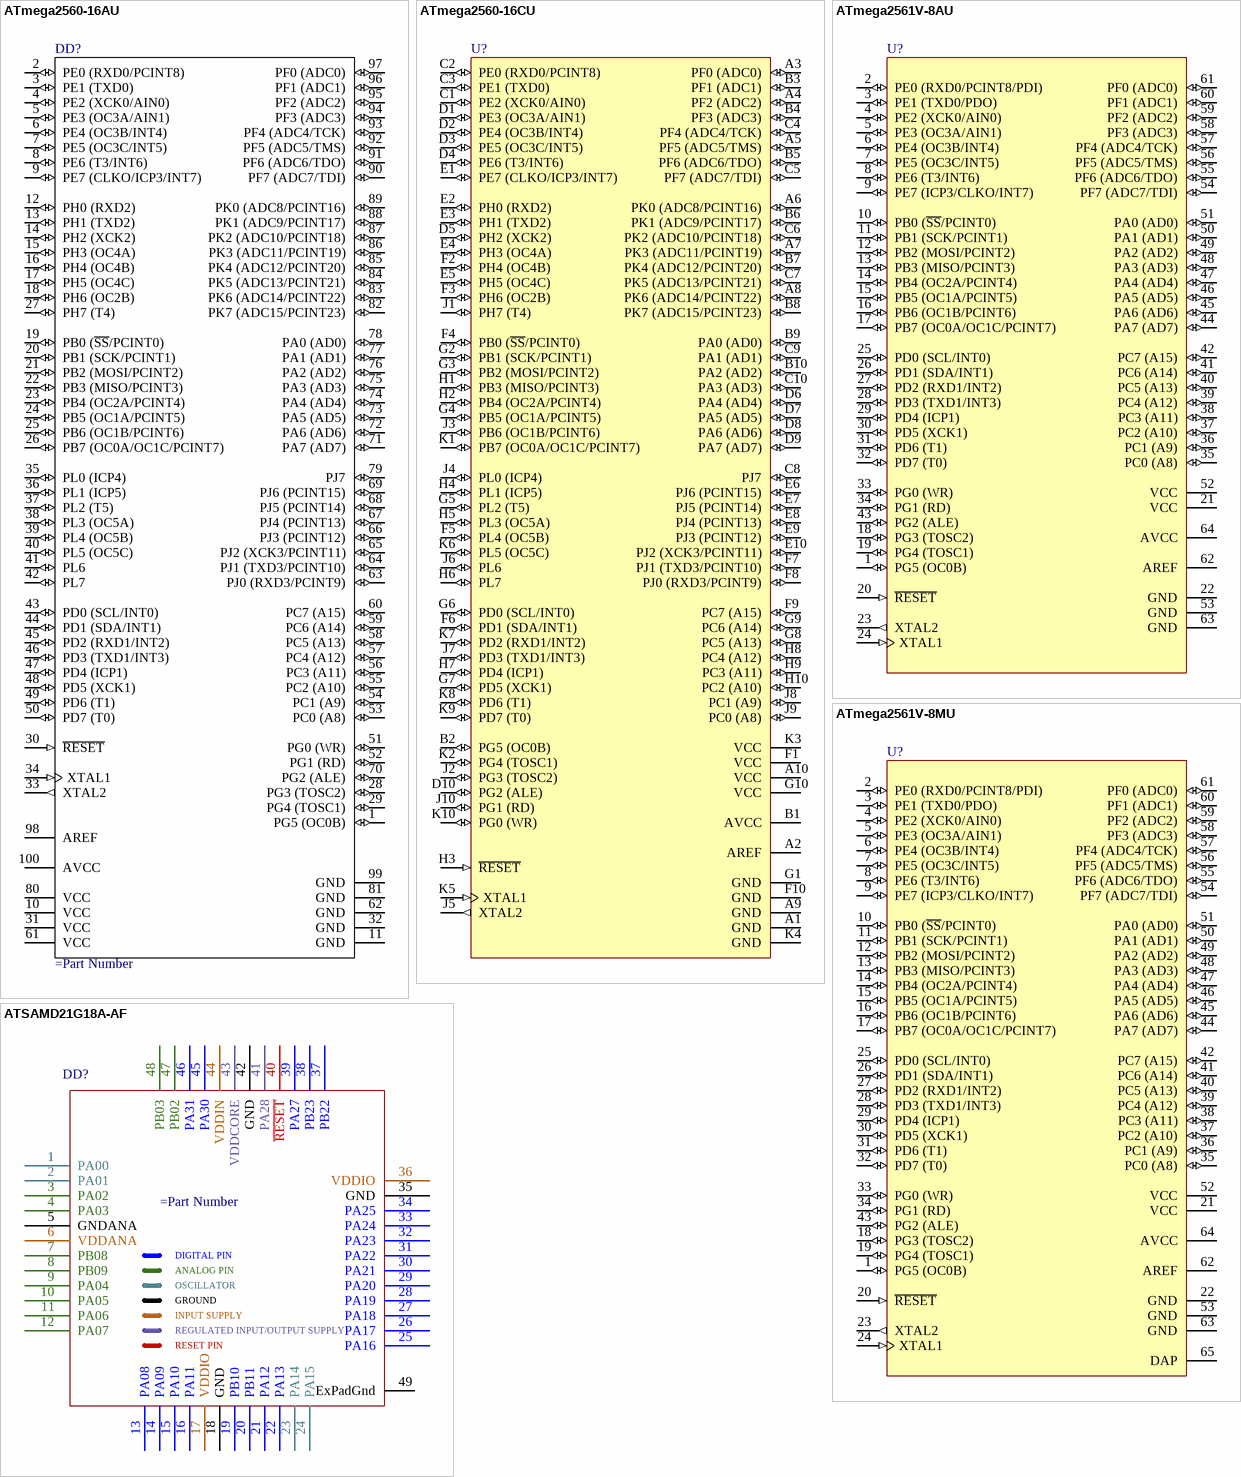
[diagram p3: symbols ATmega2560-16AU to ATSAMD21G18A-AF]

## ATmega2560-16AU
designator DD?
8-bit AVR Microcontroller, 4.5-5.5V, 256KB Flash, 4KB EEPROM, 8KB SRAM, 86 GPIO pins, 100-pin TQFP, Industrial Grade (-40°C to 85°C), Pb-Free; Published: 1-Apr-2010; DatasheetVersion: revL, Aug-2007; PackageVersion: revC, Oct-2001; PackageReference: 100A; Publisher: Altium Limited; PackageDescription: 100-Pin Thin Profile Plastic Quad Flat Pack (TQFP), 14 x 14 x 1.0 mm Body, 0.5 mm Pitch; Supplier 1: Digi-Key; Supplier Part Number 1: ATMEGA2560-16AU-ND; Supplier 2: Farnell; Supplier Part Number 2: 1288330; Supplier 3: Farnell; Supplier Part Number 3: 1661740; Supplier 4: Mouser; Supplier Part Number 4: 556-ATMEGA2560-16AU; Code_JEDEC: MS-026-AED; ComponentLink1Description: Manufacturer Link; ComponentLink1URL: http://www.atmel.com/products/avr/default.asp?; ComponentLink2Description: ATmega640/1280/1281/2560/2561 Datasheet; ComponentLink2URL: http://www.atmel.com/dyn/resources/prod_documents/doc2549.pdf; ComponentLink3Description: ATmega640/1280/1281/2560/2561 Summary; ComponentLink3URL: http://www.atmel.com/dyn/resources/prod_documents/2549S.pdf; ComponentLink4Description: Atmel.com Home; ComponentLink4URL: http://www.atmel.com
footprint 100A_N (Thin QFP, 100-Leads, Body 14x14mm, Pitch 0.5mm, IPC Medium Density)
footprint 100A_L (Thin QFP, 100-Leads, Body 14x14mm, Pitch 0.5mm, IPC High Density)
footprint 100A_M (Thin QFP, 100-Leads, Body 14x14mm, Pitch 0.5mm, IPC Low Density)
pins: 1 PG5 (OC0B) (io), 2 PE0 (RXD0/PCINT8) (io), 3 PE1 (TXD0) (io), 4 PE2 (XCK0/AIN0) (io), 5 PE3 (OC3A/AIN1) (io), 6 PE4 (OC3B/INT4) (io), 7 PE5 (OC3C/INT5) (io), 8 PE6 (T3/INT6) (io), 9 PE7 (CLKO/ICP3/INT7) (io), 10 VCC (power), 11 GND (power), 12 PH0 (RXD2) (io), 13 PH1 (TXD2) (io), 14 PH2 (XCK2) (io), 15 PH3 (OC4A) (io), 16 PH4 (OC4B) (io), 17 PH5 (OC4C) (io), 18 PH6 (OC2B) (io), 19 PB0 (~{SS}/PCINT0) (io), 20 PB1 (SCK/PCINT1) (io), 21 PB2 (MOSI/PCINT2) (io), 22 PB3 (MISO/PCINT3) (io), 23 PB4 (OC2A/PCINT4) (io), 24 PB5 (OC1A/PCINT5) (io), 25 PB6 (OC1B/PCINT6) (io), 26 PB7 (OC0A/OC1C/PCINT7) (io), 27 PH7 (T4) (io), 28 PG3 (TOSC2) (io), 29 PG4 (TOSC1) (io), 30 ~{RESET} (in), 31 VCC (power), 32 GND (power), 33 XTAL2 (out), 34 XTAL1 (in), 35 PL0 (ICP4) (io), 36 PL1 (ICP5) (io), 37 PL2 (T5) (io), 38 PL3 (OC5A) (io), 39 PL4 (OC5B) (io), 40 PL5 (OC5C) (io), 41 PL6 (io), 42 PL7 (io), 43 PD0 (SCL/INT0) (io), 44 PD1 (SDA/INT1) (io), 45 PD2 (RXD1/INT2) (io), 46 PD3 (TXD1/INT3) (io), 47 PD4 (ICP1) (io), 48 PD5 (XCK1) (io), 49 PD6 (T1) (io), 50 PD7 (T0) (io), 51 PG0 (WR) (io), 52 PG1 (RD) (io), 53 PC0 (A8) (io), 54 PC1 (A9) (io), 55 PC2 (A10) (io), 56 PC3 (A11) (io), 57 PC4 (A12) (io), 58 PC5 (A13) (io), 59 PC6 (A14) (io), 60 PC7 (A15) (io), 61 VCC (power), 62 GND (power), 63 PJ0 (RXD3/PCINT9) (io), 64 PJ1 (TXD3/PCINT10) (io), 65 PJ2 (XCK3/PCINT11) (io), 66 PJ3 (PCINT12) (io), 67 PJ4 (PCINT13) (io), 68 PJ5 (PCINT14) (io), 69 PJ6 (PCINT15) (io), 70 PG2 (ALE) (io), 71 PA7 (AD7) (io), 72 PA6 (AD6) (io), 73 PA5 (AD5) (io), 74 PA4 (AD4) (io), 75 PA3 (AD3) (io), 76 PA2 (AD2) (io), 77 PA1 (AD1) (io), 78 PA0 (AD0) (io), 79 PJ7 (io), 80 VCC (power), 81 GND (power), 82 PK7 (ADC15/PCINT23) (io), 83 PK6 (ADC14/PCINT22) (io), 84 PK5 (ADC13/PCINT21) (io), 85 PK4 (ADC12/PCINT20) (io), 86 PK3 (ADC11/PCINT19) (io), 87 PK2 (ADC10/PCINT18) (io), 88 PK1 (ADC9/PCINT17) (io), 89 PK0 (ADC8/PCINT16) (io), 90 PF7 (ADC7/TDI) (io), 91 PF6 (ADC6/TDO) (io), 92 PF5 (ADC5/TMS) (io), 93 PF4 (ADC4/TCK) (io), 94 PF3 (ADC3) (io), 95 PF2 (ADC2) (io), 96 PF1 (ADC1) (io), 97 PF0 (ADC0) (io), 98 AREF (power), 99 GND (power), 100 AVCC (power)

## ATmega2560-16CU
designator U?
8-bit AVR Microcontroller, 4.5-5.5V, 256KB Flash, 4KB EEPROM, 8KB SRAM, 86 GPIO pins, 100-pin CBGA, Industrial Grade (-40°C to 85°C), Pb-Free; Published: 1-Apr-2010; DatasheetVersion: revL, Aug-2007; PackageVersion: revA, May-2006; PackageReference: 100C1; Publisher: Altium Limited; PackageDescription: 100-Ball Chip Array BGA Package (CBGA), 9 x 9 x1.2 mm Body, 0.80 mm Pitch; Supplier 1: Digi-Key; Supplier Part Number 1: ATMEGA2560-16CU-ND; Supplier 2: Mouser; Supplier Part Number 2: 556-ATMEGA2560-16CU; ComponentLink1Description: Manufacturer Link; ComponentLink1URL: http://www.atmel.com/products/avr/default.asp?; ComponentLink2Description: ATmega640/1280/1281/2560/2561 Datasheet; ComponentLink2URL: http://www.atmel.com/dyn/resources/prod_documents/doc2549.pdf; ComponentLink3Description: ATmega640/1280/1281/2560/2561 Summary; ComponentLink3URL: http://www.atmel.com/dyn/resources/prod_documents/2549S.pdf; ComponentLink4Description: Atmel.com Home; ComponentLink4URL: http://www.atmel.com
footprint 100C1 (BGA, 100-Leads, Body 9x9mm, Pitch 0.8mm)
pins: A1 GND (power), A2 AREF (power), A3 PF0 (ADC0) (io), A4 PF2 (ADC2) (io), A5 PF5 (ADC5/TMS) (io), A6 PK0 (ADC8/PCINT16) (io), A7 PK3 (ADC11/PCINT19) (io), A8 PK6 (ADC14/PCINT22) (io), A9 GND (power), A10 VCC (power), B1 AVCC (power), B2 PG5 (OC0B) (io), B3 PF1 (ADC1) (io), B4 PF3 (ADC3) (io), B5 PF6 (ADC6/TDO) (io), B6 PK1 (ADC9/PCINT17) (io), B7 PK4 (ADC12/PCINT20) (io), B8 PK7 (ADC15/PCINT23) (io), B9 PA0 (AD0) (io), B10 PA2 (AD2) (io), C1 PE2 (XCK0/AIN0) (io), C2 PE0 (RXD0/PCINT8) (io), C3 PE1 (TXD0) (io), C4 PF4 (ADC4/TCK) (io), C5 PF7 (ADC7/TDI) (io), C6 PK2 (ADC10/PCINT18) (io), C7 PK5 (ADC13/PCINT21) (io), C8 PJ7 (io), C9 PA1 (AD1) (io), C10 PA3 (AD3) (io), D1 PE3 (OC3A/AIN1) (io), D2 PE4 (OC3B/INT4) (io), D3 PE5 (OC3C/INT5) (io), D4 PE6 (T3/INT6) (io), D5 PH2 (XCK2) (io), D6 PA4 (AD4) (io), D7 PA5 (AD5) (io), D8 PA6 (AD6) (io), D9 PA7 (AD7) (io), D10 PG2 (ALE) (io), E1 PE7 (CLKO/ICP3/INT7) (io), E2 PH0 (RXD2) (io), E3 PH1 (TXD2) (io), E4 PH3 (OC4A) (io), E5 PH5 (OC4C) (io), E6 PJ6 (PCINT15) (io), E7 PJ5 (PCINT14) (io), E8 PJ4 (PCINT13) (io), E9 PJ3 (PCINT12) (io), E10 PJ2 (XCK3/PCINT11) (io), F1 VCC (power), F2 PH4 (OC4B) (io), F3 PH6 (OC2B) (io), F4 PB0 (~{SS}/PCINT0) (io), F5 PL4 (OC5B) (io), F6 PD1 (SDA/INT1) (io), F7 PJ1 (TXD3/PCINT10) (io), F8 PJ0 (RXD3/PCINT9) (io), F9 PC7 (A15) (io), F10 GND (power), G1 GND (power), G2 PB1 (SCK/PCINT1) (io), G3 PB2 (MOSI/PCINT2) (io), G4 PB5 (OC1A/PCINT5) (io), G5 PL2 (T5) (io), G6 PD0 (SCL/INT0) (io), G7 PD5 (XCK1) (io), G8 PC5 (A13) (io), G9 PC6 (A14) (io), G10 VCC (power), H1 PB3 (MISO/PCINT3) (io), H2 PB4 (OC2A/PCINT4) (io), H3 ~{RESET} (in), H4 PL1 (ICP5) (io), H5 PL3 (OC5A) (io), H6 PL7 (io), H7 PD4 (ICP1) (io), H8 PC4 (A12) (io), H9 PC3 (A11) (io), H10 PC2 (A10) (io), J1 PH7 (T4) (io), J2 PG3 (TOSC2) (io), J3 PB6 (OC1B/PCINT6) (io), J4 PL0 (ICP4) (io), J5 XTAL2 (out), J6 PL6 (io), J7 PD3 (TXD1/INT3) (io), J8 PC1 (A9) (io), J9 PC0 (A8) (io), J10 PG1 (RD) (io), K1 PB7 (OC0A/OC1C/PCINT7) (io), K2 PG4 (TOSC1) (io), K3 VCC (power), K4 GND (power), K5 XTAL1 (in), K6 PL5 (OC5C) (io), K7 PD2 (RXD1/INT2) (io), K8 PD6 (T1) (io), K9 PD7 (T0) (io), K10 PG0 (WR) (io)

## ATmega2561V-8AU
designator U?
8-bit AVR Microcontroller, 1.8-5.5V, 256KB Flash, 4KB EEPROM, 8KB SRAM, 54 GPIO pins, 64-pin TQFP, Industrial Grade (-40°C to 85°C), Pb-Free; Published: 1-Apr-2010; DatasheetVersion: revL, Aug-2007; PackageVersion: revB, Oct-2001; PackageReference: 64A; Publisher: Altium Limited; PackageDescription: 64-Pin Plastic Thin Profile Quad Flat Pack, 14 x 14 x 1.0 mm Body, 0.8 mm Pitch (TQFP); Supplier 1: Digi-Key; Supplier Part Number 1: ATMEGA2561V-8AU-ND; Supplier 2: Farnell; Supplier Part Number 2: 1288333; Supplier 3: Mouser; Supplier Part Number 3: 556-ATMEGA2561V8AU; Code_JEDEC: MS-026-AEB; ComponentLink1Description: Manufacturer Link; ComponentLink1URL: http://www.atmel.com/products/avr/default.asp?; ComponentLink2Description: ATmega640/1280/1281/2560/2561 Datasheet; ComponentLink2URL: http://www.atmel.com/dyn/resources/prod_documents/doc2549.pdf; ComponentLink3Description: ATmega640/1280/1281/2560/2561 Summary; ComponentLink3URL: http://www.atmel.com/dyn/resources/prod_documents/2549S.pdf; ComponentLink4Description: Atmel.com Home; ComponentLink4URL: http://www.atmel.com
footprint 64A_N (Thin QFP, 64-Leads, Body 14x14mm, Pitch 0.8mm, IPC Medium Density)
footprint 64A_L (Thin QFP, 64-Leads, Body 14x14mm, Pitch 0.8mm, IPC High Density)
footprint 64A_M (Thin QFP, 64-Leads, Body 14x14mm, Pitch 0.8mm, IPC Low Density)
pins: 1 PG5 (OC0B) (io), 2 PE0 (RXD0/PCINT8/PDI) (io), 3 PE1 (TXD0/PDO) (io), 4 PE2 (XCK0/AIN0) (io), 5 PE3 (OC3A/AIN1) (io), 6 PE4 (OC3B/INT4) (io), 7 PE5 (OC3C/INT5) (io), 8 PE6 (T3/INT6) (io), 9 PE7 (ICP3/CLKO/INT7) (io), 10 PB0 (~{SS}/PCINT0) (io), 11 PB1 (SCK/PCINT1) (io), 12 PB2 (MOSI/PCINT2) (io), 13 PB3 (MISO/PCINT3) (io), 14 PB4 (OC2A/PCINT4) (io), 15 PB5 (OC1A/PCINT5) (io), 16 PB6 (OC1B/PCINT6) (io), 17 PB7 (OC0A/OC1C/PCINT7) (io), 18 PG3 (TOSC2) (io), 19 PG4 (TOSC1) (io), 20 ~{RESET} (in), 21 VCC (power), 22 GND (power), 23 XTAL2 (out), 24 XTAL1 (in), 25 PD0 (SCL/INT0) (io), 26 PD1 (SDA/INT1) (io), 27 PD2 (RXD1/INT2) (io), 28 PD3 (TXD1/INT3) (io), 29 PD4 (ICP1) (io), 30 PD5 (XCK1) (io), 31 PD6 (T1) (io), 32 PD7 (T0) (io), 33 PG0 (WR) (io), 34 PG1 (RD) (io), 35 PC0 (A8) (io), 36 PC1 (A9) (io), 37 PC2 (A10) (io), 38 PC3 (A11) (io), 39 PC4 (A12) (io), 40 PC5 (A13) (io), 41 PC6 (A14) (io), 42 PC7 (A15) (io), 43 PG2 (ALE) (io), 44 PA7 (AD7) (io), 45 PA6 (AD6) (io), 46 PA5 (AD5) (io), 47 PA4 (AD4) (io), 48 PA3 (AD3) (io), 49 PA2 (AD2) (io), 50 PA1 (AD1) (io), 51 PA0 (AD0) (io), 52 VCC (power), 53 GND (power), 54 PF7 (ADC7/TDI) (io), 55 PF6 (ADC6/TDO) (io), 56 PF5 (ADC5/TMS) (io), 57 PF4 (ADC4/TCK) (io), 58 PF3 (ADC3) (io), 59 PF2 (ADC2) (io), 60 PF1 (ADC1) (io), 61 PF0 (ADC0) (io), 62 AREF (power), 63 GND (power), 64 AVCC (power)

## ATmega2561V-8MU
designator U?
8-bit AVR Microcontroller, 1.8-5.5V, 256KB Flash, 4KB EEPROM, 8KB SRAM, 54 GPIO pins, 64-pin MLF, Industrial Grade (-40°C to 85°C), Pb-Free; Published: 1-Apr-2010; DatasheetVersion: revL, Aug-2007; PackageVersion: revD, May-2006; PackageReference: 64M2; Publisher: Altium Limited; PackageDescription: 64-Pin Micro Lead Frame Package (MLF), 9 x 9 x 1.0 mm Body, 0.5 mm Pitch, 7.65 mm Exposed Pad; Supplier 1: Digi-Key; Supplier Part Number 1: ATMEGA2561V-8MU-ND; Supplier 2: Mouser; Supplier Part Number 2: 556-ATMEGA2561V8MU; Code_JEDEC: MO-220VMMD; ComponentLink1Description: Manufacturer Link; ComponentLink1URL: http://www.atmel.com/products/avr/default.asp?; ComponentLink2Description: ATmega640/1280/1281/2560/2561 Datasheet; ComponentLink2URL: http://www.atmel.com/dyn/resources/prod_documents/doc2549.pdf; ComponentLink3Description: ATmega640/1280/1281/2560/2561 Summary; ComponentLink3URL: http://www.atmel.com/dyn/resources/prod_documents/2549S.pdf; ComponentLink4Description: Atmel.com Home; ComponentLink4URL: http://www.atmel.com
footprint 64M2_N (QFN, 64-Leads, Body 9x9mm, Pitch 0.5mm, IPC Medium Density)
footprint 64M2_L (QFN, 64-Leads, Body 9x9mm, Pitch 0.5mm, IPC High Density)
footprint 64M2_M (QFN, 64-Leads, Body 9x9mm, Pitch 0.5mm, IPC Low Density)
pins: 1 PG5 (OC0B) (io), 2 PE0 (RXD0/PCINT8/PDI) (io), 3 PE1 (TXD0/PDO) (io), 4 PE2 (XCK0/AIN0) (io), 5 PE3 (OC3A/AIN1) (io), 6 PE4 (OC3B/INT4) (io), 7 PE5 (OC3C/INT5) (io), 8 PE6 (T3/INT6) (io), 9 PE7 (ICP3/CLKO/INT7) (io), 10 PB0 (~{SS}/PCINT0) (io), 11 PB1 (SCK/PCINT1) (io), 12 PB2 (MOSI/PCINT2) (io), 13 PB3 (MISO/PCINT3) (io), 14 PB4 (OC2A/PCINT4) (io), 15 PB5 (OC1A/PCINT5) (io), 16 PB6 (OC1B/PCINT6) (io), 17 PB7 (OC0A/OC1C/PCINT7) (io), 18 PG3 (TOSC2) (io), 19 PG4 (TOSC1) (io), 20 ~{RESET} (in), 21 VCC (power), 22 GND (power), 23 XTAL2 (out), 24 XTAL1 (in), 25 PD0 (SCL/INT0) (io), 26 PD1 (SDA/INT1) (io), 27 PD2 (RXD1/INT2) (io), 28 PD3 (TXD1/INT3) (io), 29 PD4 (ICP1) (io), 30 PD5 (XCK1) (io), 31 PD6 (T1) (io), 32 PD7 (T0) (io), 33 PG0 (WR) (io), 34 PG1 (RD) (io), 35 PC0 (A8) (io), 36 PC1 (A9) (io), 37 PC2 (A10) (io), 38 PC3 (A11) (io), 39 PC4 (A12) (io), 40 PC5 (A13) (io), 41 PC6 (A14) (io), 42 PC7 (A15) (io), 43 PG2 (ALE) (io), 44 PA7 (AD7) (io), 45 PA6 (AD6) (io), 46 PA5 (AD5) (io), 47 PA4 (AD4) (io), 48 PA3 (AD3) (io), 49 PA2 (AD2) (io), 50 PA1 (AD1) (io), 51 PA0 (AD0) (io), 52 VCC (power), 53 GND (power), 54 PF7 (ADC7/TDI) (io), 55 PF6 (ADC6/TDO) (io), 56 PF5 (ADC5/TMS) (io), 57 PF4 (ADC4/TCK) (io), 58 PF3 (ADC3) (io), 59 PF2 (ADC2) (io), 60 PF1 (ADC1) (io), 61 PF0 (ADC0) (io), 62 AREF (power), 63 GND (power), 64 AVCC (power), 65 DAP (power)

## ATSAMD21G18A-AF
designator DD?
pins: 1 PA00, 2 PA01, 3 PA02, 4 PA03, 5 GNDANA, 6 VDDANA, 7 PB08, 8 PB09, 9 PA04, 10 PA05, 11 PA06, 12 PA07, 13 PA08, 14 PA09, 15 PA10, 16 PA11, 17 VDDIO, 18 GND, 19 PB10, 20 PB11, 21 PA12, 22 PA13, 23 PA14, 24 PA15, 25 PA16, 26 PA17, 27 PA18, 28 PA19, 29 PA20, 30 PA21, 31 PA22, 32 PA23, 33 PA24, 34 PA25, 35 GND, 36 VDDIO, 37 PB22, 38 PB23, 39 PA27, 40 ~{RESET}, 41 PA28, 42 GND, 43 VDDCORE, 44 VDDIN, 45 PA30, 46 PA31, 47 PB02, 48 PB03, 49 ExPadGnd
text: DIGITAL PIN; ANALOG PIN; OSCILLATOR; GROUND; INPUT SUPPLY; REGULATED INPUT/OUTPUT SUPPLY; RESET PIN

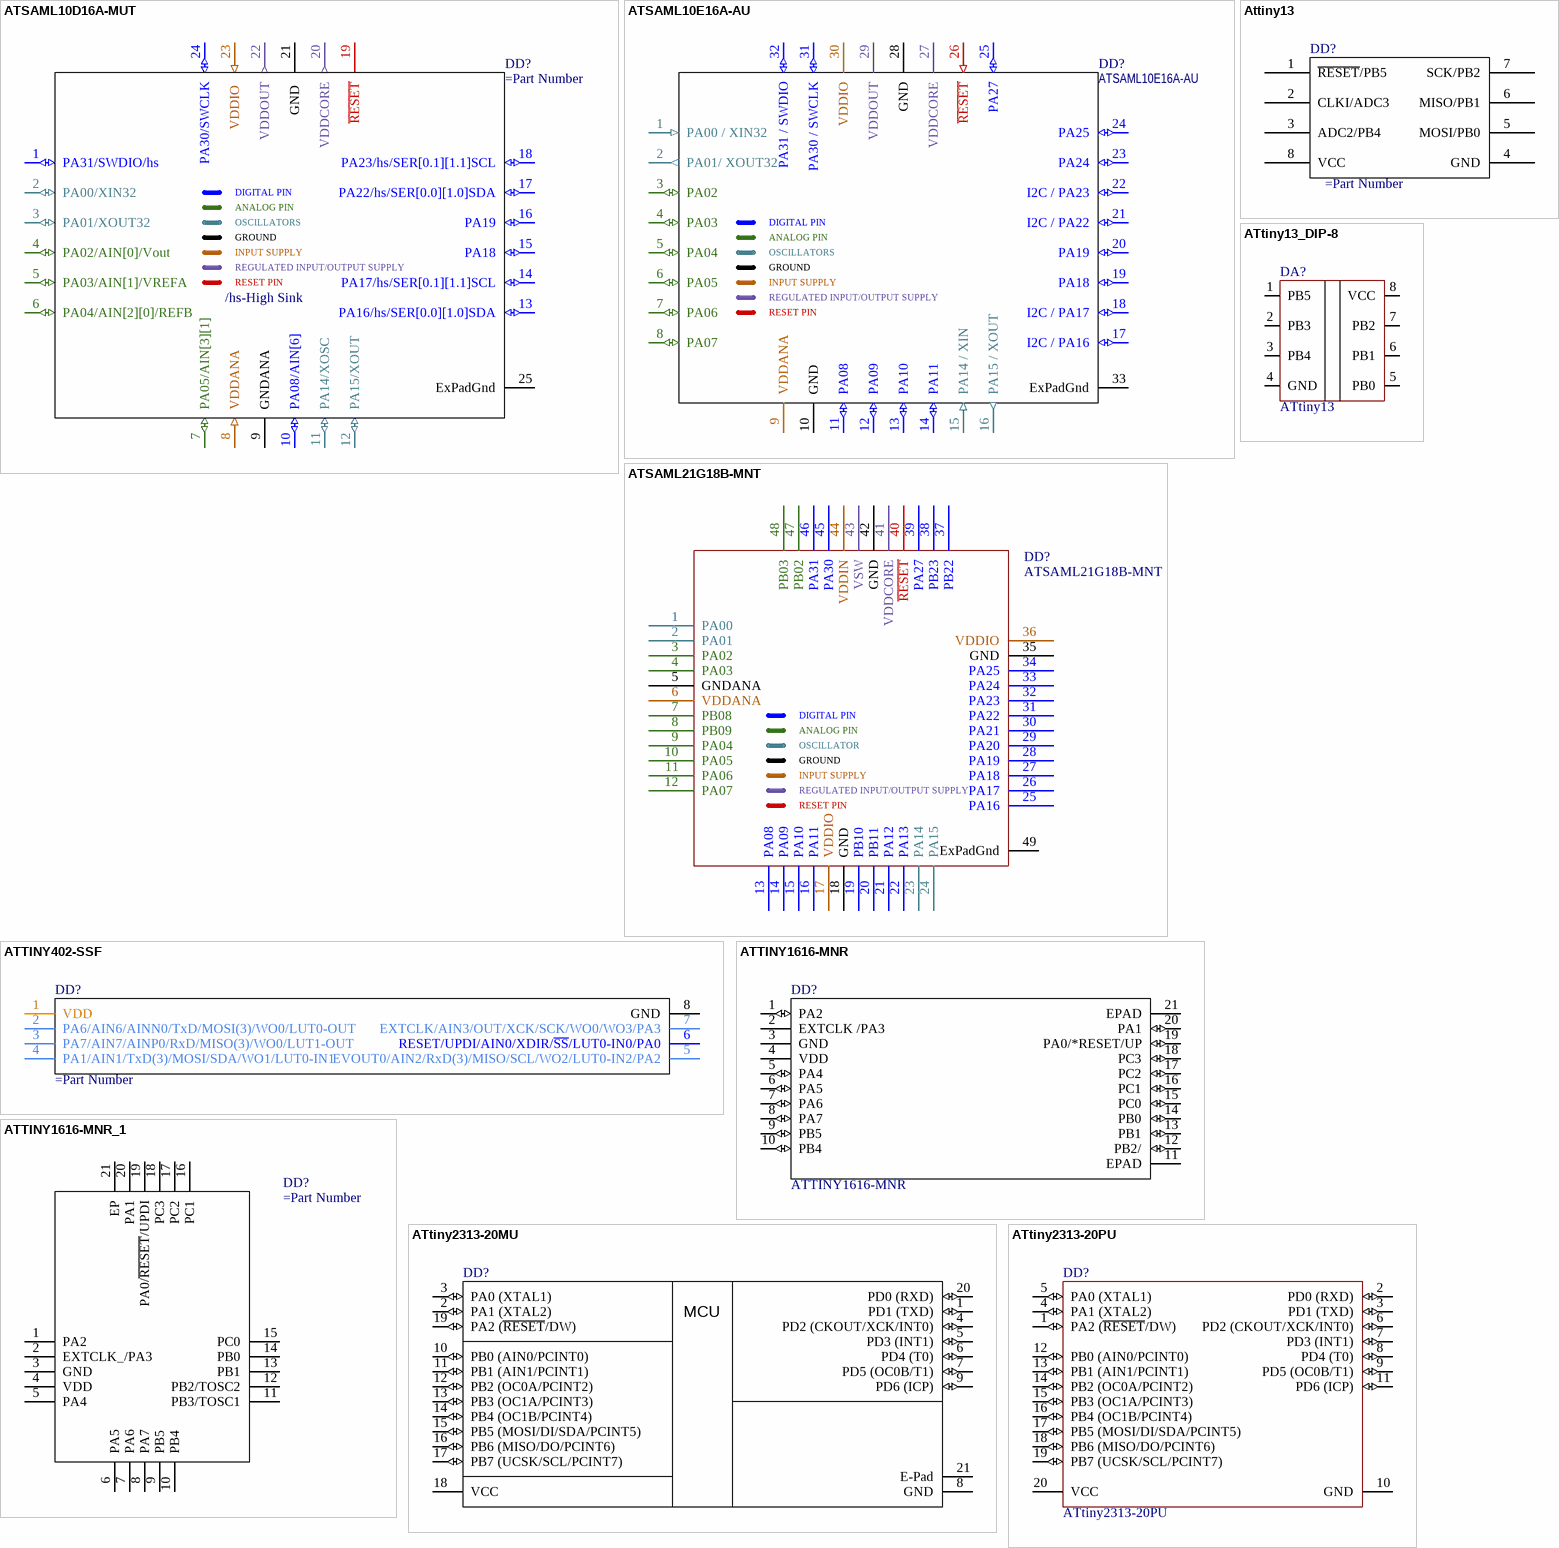
[diagram p4: symbols ATSAML10D16A-MUT to ATtiny2313-20PU]

## ATSAML10D16A-MUT
designator DD?
IC MCU 32BIT 64KB FLASH 24VQFN
footprint VQFN-24 (QFN, 24-Leads, Body 4x4mm, Pitch 0.5mm, IPC High Density)
pins: 1 PA31/SWDIO/hs (io), 2 PA00/XIN32 (io), 3 PA01/XOUT32 (io), 4 PA02/AIN[0]/Vout (io), 5 PA03/AIN[1]/VREFA (io), 6 PA04/AIN[2][0]/REFB (io), 7 PA05/AIN[3][1] (io), 8 VDDANA (in), 9 GNDANA, 10 PA08/AIN[6] (io), 11 PA14/XOSC (io), 12 PA15/XOUT (io), 13 PA16/hs/SER[0.0][1.0]SDA (io), 14 PA17/hs/SER[0.1][1.1]SCL (io), 15 PA18 (io), 16 PA19 (io), 17 PA22/hs/SER[0.0][1.0]SDA (io), 18 PA23/hs/SER[0.1][1.1]SCL (io), 19 ~{RESET}, 20 VDDCORE (out), 21 GND , 22 VDDOUT (out), 23 VDDIO  (in), 24 PA30/SWCLK (io), 25 ExPadGnd
text: DIGITAL PIN; ANALOG PIN; OSCILLATORS; GROUND; INPUT SUPPLY; REGULATED INPUT/OUTPUT SUPPLY; RESET PIN; /hs-High Sink

## ATSAML10E16A-AU
designator DD?  value ATSAML10E16A-AU
32 Bit Ultra Low Power MCU w/ 64K Flash; PartGroup: Integrated Circuits,MCU, MPU, DSP,ARM MCU; Manufacturer: Microchip; AN: A06-1590; ComponentStatus: 'Active (verified)'; Status: New; Verified by: *; Verified date: *; Design comments: *; Height: 1; MPN: ATSAML10E16A-AU; FootprintStatus: 'Active (Verified)'
footprint AP6-00508
pins: 1 PA00 / XIN32 (in), 2 PA01/ XOUT32 (out), 3 PA02 (io), 4 PA03 (io), 5 PA04 (io), 6 PA05 (io), 7 PA06 (io), 8 PA07 (io), 9 VDDANA (power), 10 GND, 11 PA08 (io), 12 PA09 (io), 13 PA10 (io), 14 PA11 (io), 15 PA14 / XIN (in), 16 PA15 / XOUT (out), 17 I2C / PA16 (io), 18 I2C / PA17 (io), 19 PA18 (io), 20 PA19 (io), 21 I2C / PA22 (io), 22 I2C / PA23 (io), 23 PA24 (io), 24 PA25 (io), 25 PA27 (io), 26 ~{RESET} (in), 27 VDDCORE (power), 28 GND, 29 VDDOUT (power), 30 VDDIO (power), 31 PA30 / SWCLK (io), 32 PA31 / SWDIO (io), 33 ExPadGnd
text: DIGITAL PIN; ANALOG PIN; OSCILLATORS; GROUND; INPUT SUPPLY; REGULATED INPUT/OUTPUT SUPPLY; RESET PIN

## ATSAML21G18B-MNT
designator DD?  value ATSAML21G18B-MNT
Atmel 32-bit RISC MCU 64pin; PartGroup: Integrated Circuits,MCU, MPU, DSP,ARM MCU; AN: A06-1311; TemperatureRange: -40Â°C to +85Â°C; ComponentStatus: 'New (not verified)'; Design comment: *; Height: 1,20000004768372; FootprintStatus: 'Active (Verified)'
footprint AP6-00173
pins: 1 PA00, 2 PA01, 3 PA02, 4 PA03, 5 GNDANA, 6 VDDANA, 7 PB08, 8 PB09, 9 PA04, 10 PA05, 11 PA06, 12 PA07, 13 PA08, 14 PA09, 15 PA10, 16 PA11, 17 VDDIO, 18 GND, 19 PB10, 20 PB11, 21 PA12, 22 PA13, 23 PA14, 24 PA15, 25 PA16, 26 PA17, 27 PA18, 28 PA19, 29 PA20, 30 PA21, 31 PA22, 32 PA23, 33 PA24, 34 PA25, 35 GND, 36 VDDIO, 37 PB22, 38 PB23, 39 PA27, 40 ~{RESET}, 41 VDDCORE, 42 GND, 43 VSW, 44 VDDIN, 45 PA30, 46 PA31, 47 PB02, 48 PB03, 49 ExPadGnd
text: DIGITAL PIN; ANALOG PIN; OSCILLATOR; GROUND; INPUT SUPPLY; REGULATED INPUT/OUTPUT SUPPLY; RESET PIN

## Attiny13
designator DD?
pins: 1 ~{RESET}/PB5, 2 CLKI/ADC3, 3 ADC2/PB4, 4 GND, 5 MOSI/PB0, 6 MISO/PB1, 7 SCK/PB2, 8 VCC

## ATtiny13_DIP-8
designator DA?, comment ATtiny13
pins: 1 PB5, 2 PB3, 3 PB4, 4 GND, 5 PB0, 6 PB1, 7 PB2, 8 VCC

## ATTINY402-SSF
designator DD?
pins: 1 VDD, 2 PA6/AIN6/AINN0/TxD/MOSI(3)/WO0/LUT0-OUT, 3 PA7/AIN7/AINP0/RxD/MISO(3)/WO0/LUT1-OUT, 4 PA1/AIN1/TxD(3)/MOSI/SDA/WO1/LUT0-IN1, 5 EVOUT0/AIN2/RxD(3)/MISO/SCL/WO2/LUT0-IN2/PA2, 6 RESET/UPDI/AIN0/XDIR/~{SS}/LUT0-IN0/PA0, 7 EXTCLK/AIN3/OUT/XCK/SCK/WO0/WO3/PA3, 8 GND

## ATTINY1616-MNR
designator DD?
No Description Available; Vendor: Microchip; Built_By: EMA_Molly; SourceLibrary: Microchip_2019-08-23_25; Manufacturer_Part_Number: ATTINY1616-MNR; Copyright: Copyright (C) 2018 Accelerated Designs. All rights reserved; RefDes: RefDes; Type: DEV
footprint VQFN20_3X3_MCH
pins: 1 PA2 (io), 2 EXTCLK /PA3, 3 GND, 4 VDD (power), 5 PA4 (io), 6 PA5 (io), 7 PA6 (io), 8 PA7 (io), 9 PB5 (io), 10 PB4 (io), 11 EPAD, 12 PB2/ (io), 13 PB1 (io), 14 PB0 (io), 15 PC0 (io), 16 PC1 (io), 17 PC2 (io), 18 PC3 (io), 19 PA0/*RESET/UP (io), 20 PA1 (io), 21 EPAD

## ATTINY1616-MNR_1
designator DD?
Integrated Circuit; Manufacturer_Name: Microchip; Manufacturer_Part_Number: ATTINY1616-MNR; Datasheet Link: http://ww1.microchip.com/downloads/en/DeviceDoc/ATtiny3216_ATtiny1616-data-sheet-40001997B.pdf; Height: 0.9mm; Arrow Part Number: ATTINY1616-MNR; Arrow Price/Stock: https://www.arrow.com/en/products/attiny1616-mnr/microchip-technology; Mouser Part Number: 556-ATTINY1616MNR; Mouser Price/Stock: https://www.mouser.co.uk/ProductDetail/Microchip-Technology-Atmel/ATTINY1616-MNR?qs=HXFqYaX1Q2yKNpuKQU9qww%3D%3D
footprint QFN40P300X300X90-21N
pins: 1 PA2, 2 EXTCLK_/PA3, 3 GND, 4 VDD, 5 PA4, 6 PA5, 7 PA6, 8 PA7, 9 PB5, 10 PB4, 11 PB3/TOSC1, 12 PB2/TOSC2, 13 PB1, 14 PB0, 15 PC0, 16 PC1, 17 PC2, 18 PC3, 19 PA0/~{RESET}/UPDI, 20 PA1, 21 EP

## ATtiny2313-20MU
designator DD?
Low Power tinyAVR® 8-Bit Microcontroller, 2K Flash Memory, 20MHz, Industrial Temperature, 20-Lead MLF, Pb-Free; Published: 20-Nov-2009; DatasheetVersion: DOC2543B, Mar-2009; PackageVersion: revA, Oct-2004; PackageReference: 20M1; Publisher: Altium Limited; PackageDescription: 20-pad, 4 x 4 x 0.8 mm Body, Lead Pitch 0.50 mm, 2.6 mm Exposed Pad, Micro Lead Frame Package (MLF); Supplier 1: Digi-Key; Supplier Part Number 1: ATTINY2313-20MU-ND; Supplier 2: Farnell; Supplier Part Number 2: 1748539; Supplier 3: Mouser; Supplier Part Number 3: 556-ATTINY2313-20MU; Code_JEDEC: MO-220WGGD-5; ComponentLink1Description: Manufacturer Link; ComponentLink1URL: http://www.atmel.com/products/AVR/tinyavr.asp?; ComponentLink2Description: Datasheet; ComponentLink2URL: http://www.atmel.com/dyn/resources/prod_documents/doc2543.pdf; ComponentLink3Description: Atmel.com Home; ComponentLink3URL: http://www.atmel.com
footprint 20M1_N (QFN, 20-Leads, Body 4x4mm, Pitch 0.5mm, IPC Medium Density)
footprint 20M1_L (QFN, 20-Leads, Body 4x4mm, Pitch 0.5mm, IPC High Density)
footprint 20M1_M (QFN, 20-Leads, Body 4x4mm, Pitch 0.5mm, IPC Low Density)
pins: 1 PD1 (TXD) (io), 2 PA1 (XTAL2) (io), 3 PA0 (XTAL1) (io), 4 PD2 (CKOUT/XCK/INT0) (io), 5 PD3 (INT1) (io), 6 PD4 (T0) (io), 7 PD5 (OC0B/T1) (io), 8 GND (power), 9 PD6 (ICP) (io), 10 PB0 (AIN0/PCINT0) (io), 11 PB1 (AIN1/PCINT1) (io), 12 PB2 (OC0A/PCINT2) (io), 13 PB3 (OC1A/PCINT3) (io), 14 PB4 (OC1B/PCINT4) (io), 15 PB5 (MOSI/DI/SDA/PCINT5) (io), 16 PB6 (MISO/DO/PCINT6) (io), 17 PB7 (UCSK/SCL/PCINT7) (io), 18 VCC (power), 19 PA2 (~{RESET}/DW) (io), 20 PD0 (RXD) (io), 21 E-Pad (power)
text: MCU

## ATtiny2313-20PU
designator DD?
Low Power tinyAVR® 8-Bit Microcontroller, 2K Flash Memory, 20MHz, Industrial Temperature, 20-Lead PDIP, Pb-Free; Published: 20-Nov-2009; DatasheetVersion: DOC2543B, Mar-2009; PackageVersion: revC, Jan-2004; PackageReference: 20P3; Publisher: Altium Limited; PackageDescription: 20-lead (0.300"/7.62mm Wide) Plastic Dual Inline Package (PDIP); Supplier 1: Digi-Key; Supplier Part Number 1: ATTINY2313-20PU-ND; Supplier 2: Farnell; Supplier Part Number 2: 9171592; Supplier 3: Mouser; Supplier Part Number 3: 556-ATTINY2313-20PU; Code_JEDEC: MS-001-AD; ComponentLink1Description: Manufacturer Link; ComponentLink1URL: http://www.atmel.com/products/AVR/tinyavr.asp?; ComponentLink2Description: Datasheet; ComponentLink2URL: http://www.atmel.com/dyn/resources/prod_documents/doc2543.pdf; ComponentLink3Description: Atmel.com Home; ComponentLink3URL: http://www.atmel.com
pins: 1 PA2 (~{RESET}/DW) (io), 2 PD0 (RXD) (io), 3 PD1 (TXD) (io), 4 PA1 (XTAL2) (io), 5 PA0 (XTAL1) (io), 6 PD2 (CKOUT/XCK/INT0) (io), 7 PD3 (INT1) (io), 8 PD4 (T0) (io), 9 PD5 (OC0B/T1) (io), 10 GND (power), 11 PD6 (ICP) (io), 12 PB0 (AIN0/PCINT0) (io), 13 PB1 (AIN1/PCINT1) (io), 14 PB2 (OC0A/PCINT2) (io), 15 PB3 (OC1A/PCINT3) (io), 16 PB4 (OC1B/PCINT4) (io), 17 PB5 (MOSI/DI/SDA/PCINT5) (io), 18 PB6 (MISO/DO/PCINT6) (io), 19 PB7 (UCSK/SCL/PCINT7) (io), 20 VCC (power)

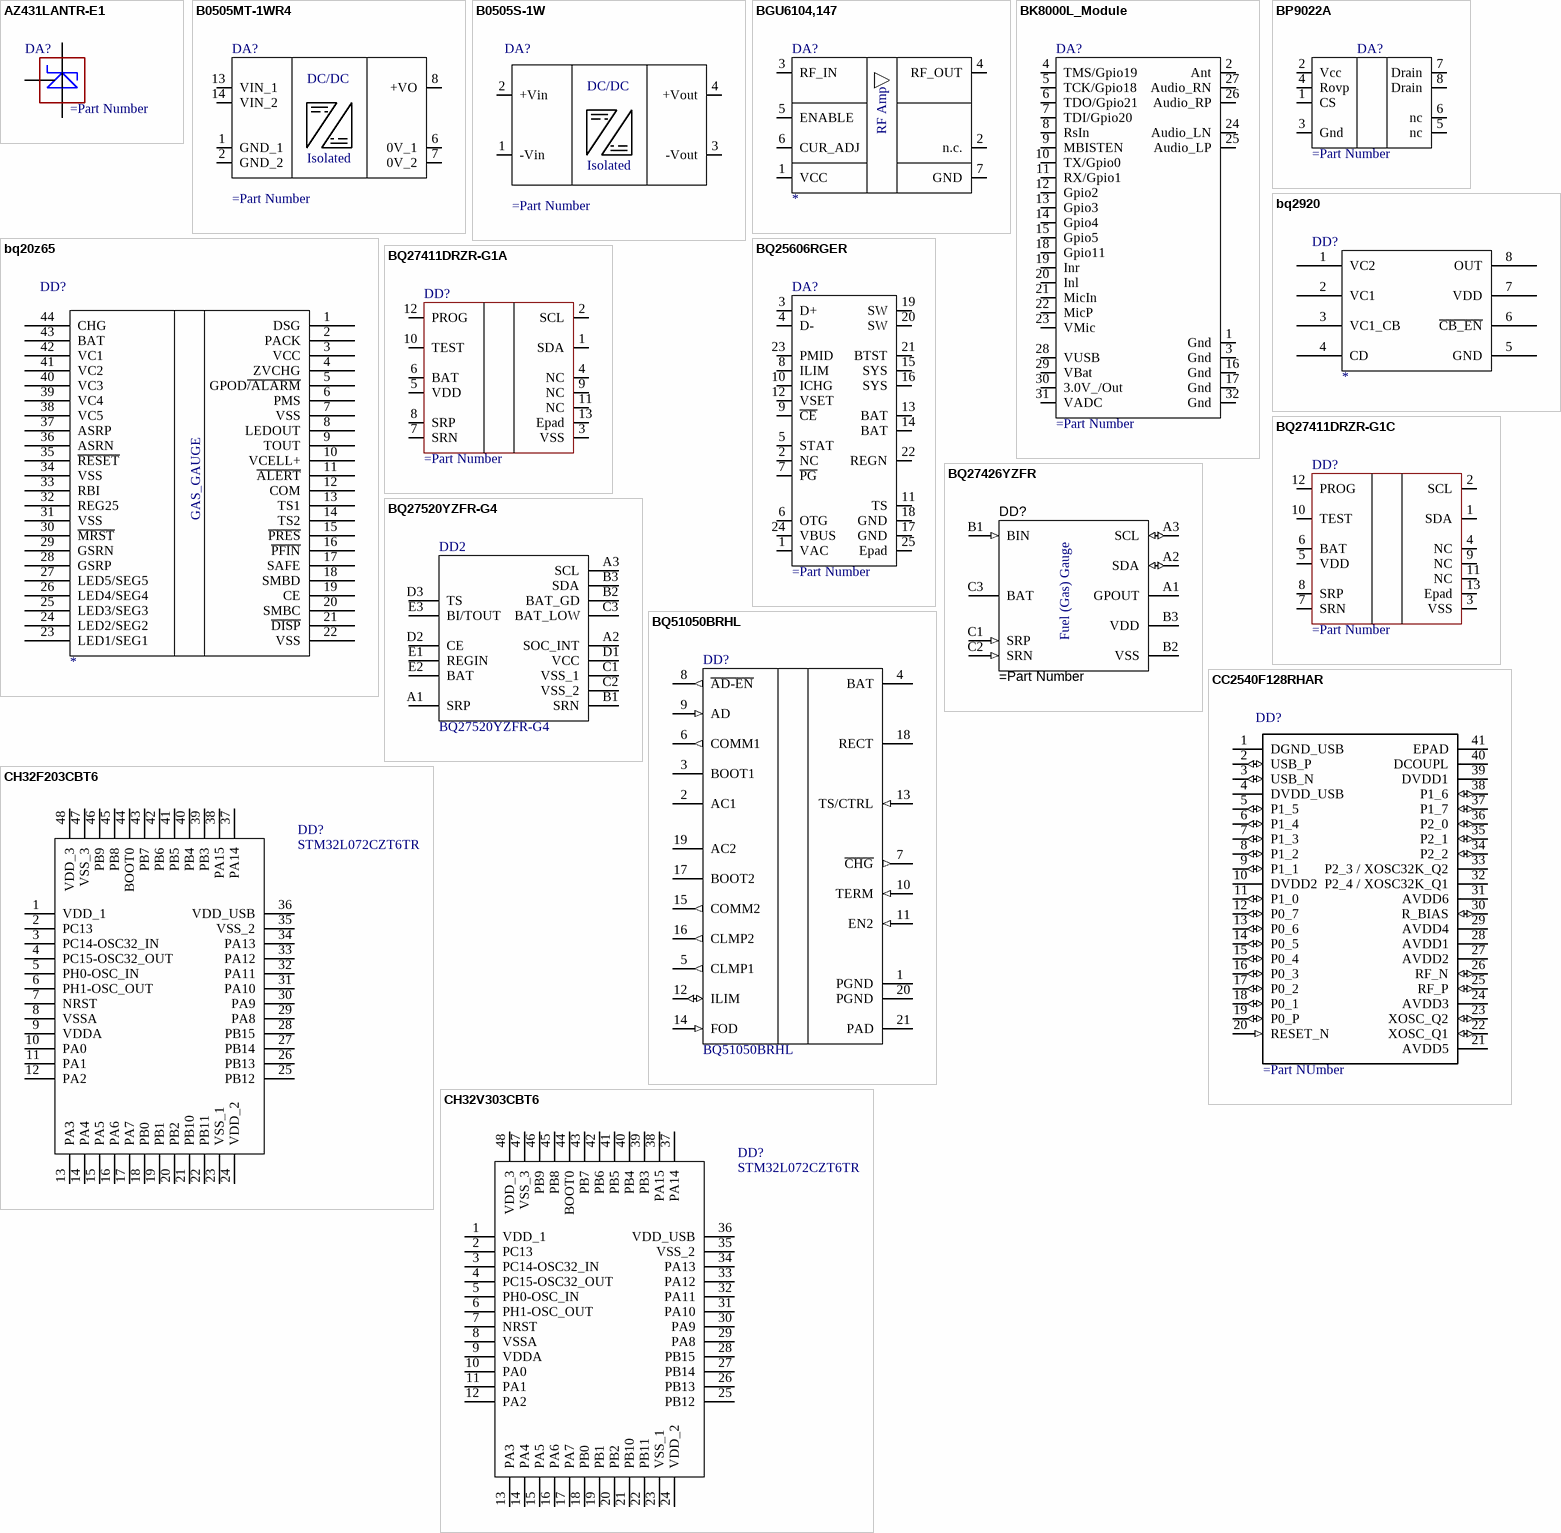
[diagram p5: symbols AZ431LANTR-E1 to CH32V303CBT6]

## AZ431LANTR-E1
designator DA?
pins: 1 REF, 2 K, 3 A

## B0505MT-1WR4
designator DA?
Power Supply; Manufacturer_Name: Mornsun; Manufacturer_Part_Number: B0505MT-1WR4; Datasheet Link: https://www.mornsun-power.com/html/pdf/B0505MT-1WR4.html; Height: 3.4mm
footprint B0505MT1WR4
pins: 1 GND_1, 2 GND_2, 6 0V_1, 7 0V_2, 8 +VO, 13 VIN_1, 14 VIN_2
text: DC/DC; Isolated

## B0505S-1W
designator DA?
pins: 1 -Vin, 2 +Vin, 3 -Vout, 4 +Vout
text: DC/DC; Isolated

## BGU6104,147
designator DA?
pins: 1 VCC, 2 n.c., 3 RF_IN, 4 RF_OUT, 5 ENABLE, 6 CUR_ADJ, 7 GND
text: RF Amp

## BK8000L_Module
designator DA?
pins: 1 Gnd, 2 Ant, 3 Gnd, 4 TMS/Gpio19, 5 TCK/Gpio18, 6 TDO/Gpio21, 7 TDI/Gpio20, 8 RsIn, 9 MBISTEN, 10 TX/Gpio0, 11 RX/Gpio1, 12 Gpio2, 13 Gpio3, 14 Gpio4, 15 Gpio5, 16 Gnd, 17 Gnd, 18 Gpio11, 19 Inr, 20 Inl, 21 MicIn, 22 MicP, 23 VMic, 24 Audio_LN, 25 Audio_LP, 26 Audio_RP, 27 Audio_RN, 28 VUSB, 29 VBat, 30 3.0V_/Out, 31 VADC, 32 Gnd

## BP9022A
designator DA?
pins: 1 CS, 2 Vcc, 3 Gnd, 4 Rovp, 5 nc, 6 nc, 7 Drain, 8 Drain

## bq20z65
designator DD?
pins: 1 DSG, 2 PACK, 3 VCC, 4 ZVCHG, 5 GPOD~{/ALARM}, 6 PMS, 7 VSS, 8 LEDOUT, 9 TOUT, 10 VCELL+, 11 ~{ALERT}, 12 COM, 13 TS1, 14 TS2, 15 ~{PRES}, 16 ~{PFIN}, 17 SAFE, 18 SMBD, 19 CE, 20 SMBC, 21 ~{DISP}, 22 VSS, 23 LED1/SEG1, 24 LED2/SEG2, 25 LED3/SEG3, 26 LED4/SEG4, 27 LED5/SEG5, 28 GSRP, 29 GSRN, 30 ~{MRST}, 31 VSS, 32 REG25, 33 RBI, 34 VSS, 35 ~{RESET}, 36 ASRN, 37 ASRP, 38 VC5, 39 VC4, 40 VC3, 41 VC2, 42 VC1, 43 BAT, 44 CHG
text: GAS_GAUGE

## bq2920
designator DD?
pins: 1 VC2, 2 VC1, 3 VC1_CB, 4 CD, 5 GND, 6 ~{CB_EN}, 7 VDD, 8 OUT

## BQ25606RGER
designator DA?
pins: 1 VAC, 2 NC, 3 D+, 4 D-, 5 STAT, 6 OTG, 7 ~{PG}, 8 ILIM, 9 ~{CE}, 10 ICHG, 11 TS, 12 VSET, 13 BAT, 14 BAT, 15 SYS, 16 SYS, 17 GND, 18 GND, 19 SW, 20 SW, 21 BTST, 22 REGN, 23 PMID, 24 VBUS, 25 Epad

## BQ27411DRZR-G1A
designator DD?
pins: 1 SDA, 2 SCL, 3 VSS, 4 NC, 5 VDD, 6 BAT, 7 SRN, 8 SRP, 9 NC, 10 TEST, 11 NC, 12 PROG, 13 Epad

## BQ27411DRZR-G1C
designator DD?
pins: 1 SDA, 2 SCL, 3 VSS, 4 NC, 5 VDD, 6 BAT, 7 SRN, 8 SRP, 9 NC, 10 TEST, 11 NC, 12 PROG, 13 Epad

## BQ27426YZFR
designator DD?
System-Side Impedance Track Fuel Gauge, YZF0009-C01; PartNumber: BQ27426YZFR; Alternate PartNumber: BQ27426YZFT; Manufacturer: Texas Instruments; SymbolCreator: Altium; SizeArea_mm2: 2.5596; SizeAreaWB_mm2: 6.7596; SizeX_mm: 1.62; SizeY_mm: 1.58; SizeZ_mm: 0.625; CompType: IC; U/M: EA; SymbolVersion: 2015-04-13; PackageReference: YZF0009-C01; PackageDescription: DSBGA-9; MountType: SMT; ComponentLink1Description: Datasheet Link; ComponentLink1URL: https://sps06.itg.ti.com/sites/KMS/crossdivteams/altium/docs/ComponentDatasheets/bq27426.pdf; Publisher: Texas Instruments; LatestRevisionDate: 2016-08-29; Alternate Manufacturer: Texas Instruments
footprint YZF0009-C01
pins: A1 GPOUT (oc), A2 SDA (io), A3 SCL (io), B1 BIN (in), B2 VSS (power), B3 VDD (power), C1 SRP (in), C2 SRN (in), C3 BAT (power)
text: Fuel (Gas) Gauge

## BQ27520YZFR-G4
designator DD2
IC BATT FUEL GAUGE LIION 15DSBGA; Manufacturer_Name: Texas Instruments; Datasheet Link: http://www.ti.com/lit/gpn/bq27520-g4; Height: 0.625mm; Manufacturer_Part_Number: BQ27520YZFR-G4; Mouser Part Number: 595-BQ27520YZFR-G4; Mouser Price/Stock: https://www.mouser.co.uk/ProductDetail/Texas-Instruments/BQ27520YZFR-G4?qs=FBI%252BX3tnPf20L4IL0vyFFg%3D%3D; Part Number: BQ27520YZFR-G4; HelpURL: https://www.digikey.com/en/products/detail/texas-instruments/BQ27520YZFR-G4/3775436; Price$: 2.62500; Digi-Key Part Number: 296-38882-1-ND; Manufacturer Part Number: BQ27520YZFR-G4
footprint BGA15C50P3X5_196X261X62
pins: A1 SRP, A2 SOC_INT, A3 SCL, B1 SRN, B2 BAT_GD, B3 SDA, C1 VSS_1, C2 VSS_2, C3 BAT_LOW, D1 VCC, D2 CE, D3 TS, E1 REGIN, E2 BAT, E3 BI/TOUT

## BQ51050BRHL
designator DD?
High-Efficiency Qi v1.1-Compliant Wireless Power Receiver and Battery Charger, RHL0020A, VQFN-20; Part Number: BQ51050BRHL; HelpURL: http://www.ti.com/lit/ds/symlink/bq51050b.pdf
footprint RHL0020A
pins: 1 PGND (power), 2 AC1 (power), 3 BOOT1 (power), 4 BAT (power), 5 CLMP1 (out), 6 COMM1 (out), 7 ~{CHG} (out), 8 ~{AD-EN} (out), 9 AD (in), 10 TERM (in), 11 EN2 (in), 12 ILIM (io), 13 TS/CTRL (in), 14 FOD (in), 15 COMM2 (out), 16 CLMP2 (out), 17 BOOT2 (power), 18 RECT (power), 19 AC2 (power), 20 PGND (power), 21 PAD

## CC2540F128RHAR
designator DD?
2.4GHz Bluetooth Low Energy System-on-Chip Solution; Manufacturer: Texas Instruments; GENERIC_PART_NUMBER: CC2540; INDUSTRY_STD_PKG_TYPE: VQFN; FAMILY_NAME: Bluetooth Low Energy Technology; PIN_COUNT: 40; PACKAGE_DESIGNATOR: RHA; Datasheet_URL: http://www.ti.com/lit/gpn/CC2540; Copyright: Copyright (C) 2018 Accelerated Designs. All rights reserved; RefDes: RefDes; Type: DEV
footprint RHA40_4P5X4P5
pins: 1 DGND_USB (power), 2 USB_P (io), 3 USB_N (io), 4 DVDD_USB (power), 5 P1_5 (io), 6 P1_4 (io), 7 P1_3 (io), 8 P1_2 (io), 9 P1_1 (io), 10 DVDD2 (power), 11 P1_0 (io), 12 P0_7 (io), 13 P0_6 (io), 14 P0_5 (io), 15 P0_4 (io), 16 P0_3 (io), 17 P0_2 (io), 18 P0_1 (io), 19 P0_P (io), 20 RESET_N (in), 21 AVDD5 (power), 22 XOSC_Q1 (io), 23 XOSC_Q2 (io), 24 AVDD3 (power), 25 RF_P (io), 26 RF_N (io), 27 AVDD2 (power), 28 AVDD1 (power), 29 AVDD4 (power), 30 R_BIAS (io), 31 AVDD6 (power), 32 P2_4 / XOSC32K_Q1, 33 P2_3 / XOSC32K_Q2, 34 P2_2 (io), 35 P2_1 (io), 36 P2_0 (io), 37 P1_7 (io), 38 P1_6 (io), 39 DVDD1 (power), 40 DCOUPL (power), 41 EPAD (power)

## CH32F203CBT6
designator DD?, comment STM32L072CZT6TR
ARM Microcontrollers - IC MCU 32BIT 128KB FLASH 48LQFP; Part Number: STM32L072CZT6TR; HelpURL: https://www.digikey.com/en/products/detail/stmicroelectronics/STM32L072CZT6TR/8257875; Price$: 7.19; Digi-Key Part Number: 497-STM32L072CZT6CT-ND; Manufacturer Part Number: STM32L072CZT6TR; Package: LQFP-48
footprint LQFP48_L
footprint LQFP48_M
pins: 1 VDD_1, 2 PC13, 3 PC14-OSC32_IN, 4 PC15-OSC32_OUT, 5 PH0-OSC_IN, 6 PH1-OSC_OUT, 7 NRST, 8 VSSA, 9 VDDA, 10 PA0, 11 PA1, 12 PA2, 13 PA3, 14 PA4, 15 PA5, 16 PA6, 17 PA7, 18 PB0, 19 PB1, 20 PB2, 21 PB10, 22 PB11, 23 VSS_1, 24 VDD_2, 25 PB12, 26 PB13, 27 PB14, 28 PB15, 29 PA8, 30 PA9, 31 PA10, 32 PA11, 33 PA12, 34 PA13, 35 VSS_2, 36 VDD_USB, 37 PA14, 38 PA15, 39 PB3, 40 PB4, 41 PB5, 42 PB6, 43 PB7, 44 BOOT0, 45 PB8, 46 PB9, 47 VSS_3, 48 VDD_3

## CH32V303CBT6
designator DD?, comment STM32L072CZT6TR
ARM Microcontrollers - IC MCU 32BIT 128KB FLASH 48LQFP; Part Number: STM32L072CZT6TR; HelpURL: https://www.digikey.com/en/products/detail/stmicroelectronics/STM32L072CZT6TR/8257875; Price$: 7.19; Digi-Key Part Number: 497-STM32L072CZT6CT-ND; Manufacturer Part Number: STM32L072CZT6TR; Package: LQFP-48
footprint LQFP48_L
footprint LQFP48_M
pins: 1 VDD_1, 2 PC13, 3 PC14-OSC32_IN, 4 PC15-OSC32_OUT, 5 PH0-OSC_IN, 6 PH1-OSC_OUT, 7 NRST, 8 VSSA, 9 VDDA, 10 PA0, 11 PA1, 12 PA2, 13 PA3, 14 PA4, 15 PA5, 16 PA6, 17 PA7, 18 PB0, 19 PB1, 20 PB2, 21 PB10, 22 PB11, 23 VSS_1, 24 VDD_2, 25 PB12, 26 PB13, 27 PB14, 28 PB15, 29 PA8, 30 PA9, 31 PA10, 32 PA11, 33 PA12, 34 PA13, 35 VSS_2, 36 VDD_USB, 37 PA14, 38 PA15, 39 PB3, 40 PB4, 41 PB5, 42 PB6, 43 PB7, 44 BOOT0, 45 PB8, 46 PB9, 47 VSS_3, 48 VDD_3

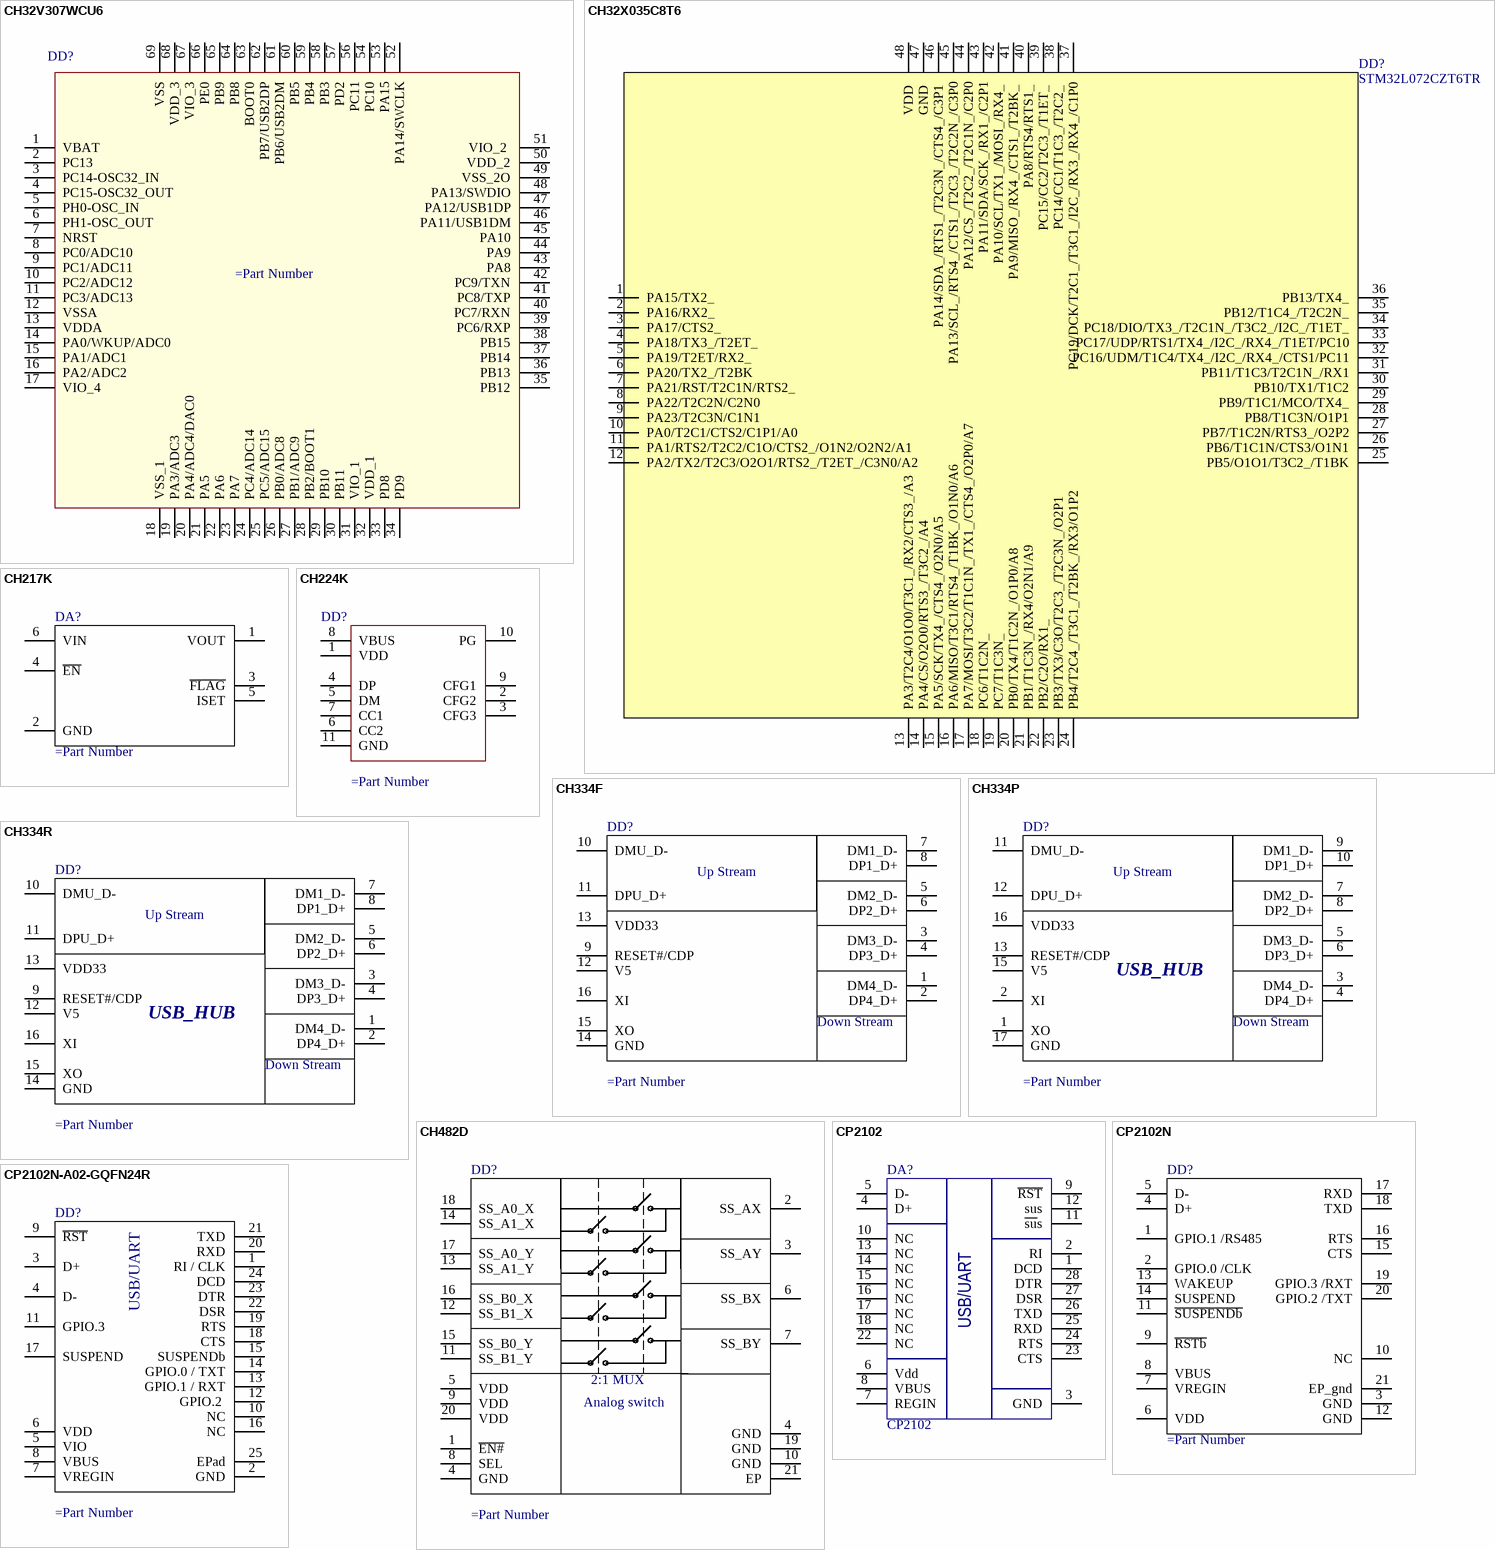
[diagram p6: symbols CH32V307WCU6 to CP2102N-A02-GQFN24R]

## CH32V307WCU6
designator DD?
footprint QFN68
pins: 1 VBAT, 2 PC13, 3 PC14-OSC32_IN, 4 PC15-OSC32_OUT, 5 PH0-OSC_IN, 6 PH1-OSC_OUT, 7 NRST, 8 PC0/ADC10, 9 PC1/ADC11, 10 PC2/ADC12, 11 PC3/ADC13, 12 VSSA, 13 VDDA, 14 PA0/WKUP/ADC0, 15 PA1/ADC1 , 16 PA2/ADC2 , 17 VIO_4 , 18 VSS_1, 19 PA3/ADC3, 20 PA4/ADC4/DAC0, 21 PA5, 22 PA6, 23 PA7, 24 PC4/ADC14, 25 PC5/ADC15, 26 PB0/ADC8, 27 PB1/ADC9, 28 PB2/BOOT1, 29 PB10, 30 PB11, 31 VIO_1, 32 VDD_1, 33 PD8, 34 PD9, 35 PB12, 36 PB13, 37 PB14, 38 PB15, 39 PC6/RXP, 40 PC7/RXN, 41 PC8/TXP, 42 PC9/TXN, 43 PA8, 44 PA9, 45 PA10, 46 PA11/USB1DM, 47 PA12/USB1DP, 48 PA13/SWDIO, 49 VSS_2O, 50 VDD_2, 51 VIO_2 , 52 PA14/SWCLK, 53 PA15, 54 PC10, 56 PC11, 57 PD2, 58 PB3, 59 PB4, 60 PB5, 61 PB6/USB2DM, 62 PB7/USB2DP, 63 BOOT0, 64 PB8, 65 PB9, 66 PE0, 67 VIO_3, 68 VDD_3, 69 VSS

## CH32X035C8T6
designator DD?, comment STM32L072CZT6TR
ARM Microcontrollers - IC MCU 32BIT  62KB FLASH 48LQFP; Part Number: STM32L072CZT6TR; HelpURL: https://www.digikey.com/en/products/detail/stmicroelectronics/STM32L072CZT6TR/8257875; Price$: 7.19; Digi-Key Part Number: 497-STM32L072CZT6CT-ND; Manufacturer Part Number: STM32L072CZT6TR; Package: LQFP-48
footprint LQFP48_L
footprint LQFP48_M
pins: 1 PA15/TX2_, 2 PA16/RX2_, 3 PA17/CTS2_, 4 PA18/TX3_/T2ET_, 5 PA19/T2ET/RX2_, 6 PA20/TX2_/T2BK, 7 PA21/RST/T2C1N/RTS2_, 8 PA22/T2C2N/C2N0, 9 PA23/T2C3N/C1N1, 10 PA0/T2C1/CTS2/C1P1/A0, 11 PA1/RTS2/T2C2/C1O/CTS2_/O1N2/O2N2/A1, 12 PA2/TX2/T2C3/O2O1/RTS2_/T2ET_/C3N0/A2, 13 PA3/T2C4/O1O0/T3C1_/RX2/CTS3_/A3, 14 PA4/CS/O2O0/RTS3_/T3C2_/A4, 15 PA5/SCK/TX4_/CTS4_/O2N0/A5, 16 PA6/MISO/T3C1/RTS4_/T1BK_/O1N0/A6, 17 PA7/MOSI/T3C2/T1C1N_/TX1_/CTS4_/O2P0/A7, 18 PC6/T1C2N_ , 19 PC7/T1C3N_ , 20 PB0/TX4/T1C2N_/O1P0/A8, 21 PB1/T1C3N_/RX4/O2N1/A9, 22 PB2/C2O/RX1_ , 23 PB3/TX3/C3O/T2C3_/T2C3N_/O2P1, 24 PB4/T2C4_/T3C1_/T2BK_/RX3/O1P2, 25 PB5/O1O1/T3C2_/T1BK, 26 PB6/T1C1N/CTS3/O1N1, 27 PB7/T1C2N/RTS3_/O2P2, 28 PB8/T1C3N/O1P1, 29 PB9/T1C1/MCO/TX4_, 30 PB10/TX1/T1C2, 31 PB11/T1C3/T2C1N_/RX1, 32 PC16/UDM/T1C4/TX4_/I2C_/RX4_/CTS1/PC11, 33 PC17/UDP/RTS1/TX4_/I2C_/RX4_/T1ET/PC10, 34 PC18/DIO/TX3_/T2C1N_/T3C2_/I2C_/T1ET_, 35 PB12/T1C4_/T2C2N_, 36 PB13/TX4_, 37 PC19/DCK/T2C1_/T3C1_/I2C_/RX3_/RX4_/C1P0, 38 PC14/CC1/T1C3_/T2C2_ , 39 PC15/CC2/T2C3_/T1ET_ , 40 PA8/RTS4/RTS1_ , 41 PA9/MISO_/RX4_/CTS1_/T2BK_ , 42 PA10/SCL/TX1_/MOSI_/RX4_ , 43 PA11/SDA/SCK_/RX1_/C2P1, 44 PA12/CS_/T2C2_/T2C1N_/C2P0, 45 PA13/SCL_/RTS4_/CTS1_/T2C3_/T2C2N_/C3P0, 46 PA14/SDA_/RTS1_/T2C3N_/CTS4_/C3P1 , 47 GND , 48 VDD 

## CH217K
designator DA?
pins: 1 VOUT, 2 GND, 3 ~{FLAG}, 4 ~{EN}, 5 ISET, 6 VIN

## CH224K
designator DD?
pins: 1 VDD, 2 CFG2, 3 CFG3, 4 DP, 5 DM, 6 CC2, 7 CC1, 8 VBUS, 9 CFG1, 10 PG, 11 GND

## CH334F
designator DD?
pins: 1 DM4_D-, 2 DP4_D+, 3 DM3_D-, 4 DP3_D+, 5 DM2_D-, 6 DP2_D+, 7 DM1_D-, 8 DP1_D+, 9 RESET#/CDP, 10 DMU_D-, 11 DPU_D+, 12 V5, 13 VDD33, 14 GND, 15 XO, 16 XI
text: Up Stream; Down Stream

## CH334P
designator DD?
pins: 1 XO, 2 XI, 3 DM4_D-, 4 DP4_D+, 5 DM3_D-, 6 DP3_D+, 7 DM2_D-, 8 DP2_D+, 9 DM1_D-, 10 DP1_D+, 11 DMU_D-, 12 DPU_D+, 13 RESET#/CDP, 15 V5, 16 VDD33, 17 GND
text: Up Stream; USB_HUB; Down Stream

## CH334R
designator DD?
pins: 1 DM4_D-, 2 DP4_D+, 3 DM3_D-, 4 DP3_D+, 5 DM2_D-, 6 DP2_D+, 7 DM1_D-, 8 DP1_D+, 9 RESET#/CDP, 10 DMU_D-, 11 DPU_D+, 12 V5, 13 VDD33, 14 GND, 15 XO, 16 XI
text: Up Stream; USB_HUB; Down Stream

## CH482D
designator DD?
pins: 1 ~{EN#}, 2 SS_AX, 3 SS_AY, 4 GND, 4 GND, 5 VDD, 6 SS_BX, 7 SS_BY, 8 SEL, 9 VDD, 10 GND, 11 SS_B1_Y, 12 SS_B1_X, 13 SS_A1_Y, 14 SS_A1_X, 15 SS_B0_Y, 16 SS_B0_X, 17 SS_A0_Y, 18 SS_A0_X, 19 GND, 20 VDD, 21 EP
text: 2:1 MUX; Analog switch

## CP2102
designator DA?
pins: 1 DCD "Din", 2 RI "Din", 3 GND "Ground", 4  D+ "DI/O", 5 D- "DI/O", 6 Vdd "Power In/Power Out", 7 REGIN  "Power In", 8  VBUS  "DIn", 9 ~{RST} "DI/O", 10 NC, 11 ~{su}s "Dout", 12 sus "Dout", 13 NC, 14 NC, 15 NC, 16 NC, 17 NC, 18 NC, 22 NC, 23 CTS "Din", 24 RTS "Dout", 25 RXD "DIn", 26 TXD "DOut", 27 DSR "Din", 28 DTR "Dout"
text: USB/UART

## CP2102N
designator DD?
pins: 1 GPIO.1 /RS485, 2 GPIO.0 /CLK, 3 GND, 4 D+, 5 D-, 6 VDD, 7 VREGIN, 8 VBUS, 9 ~{RSTb}, 10 NC, 11 ~{SUSPENDb}, 12 GND, 13 WAKEUP, 14 SUSPEND, 15 CTS, 16 RTS, 17 RXD, 18 TXD, 19 GPIO.3 /RXT, 20 GPIO.2 /TXT, 21 EP_gnd

## CP2102N-A02-GQFN24R
designator DD?
pins: 1 RI / CLK, 2 GND, 3 D+, 4 D-, 5 VIO, 6 VDD, 7 VREGIN, 8 VBUS, 9 ~{RST}, 10 NC, 11 GPIO.3, 12 GPIO.2 , 13 GPIO.1 / RXT, 14 GPIO.0 / TXT, 15 SUSPENDb, 16 NC, 17 SUSPEND, 18 CTS, 19 RTS, 20 RXD, 21 TXD, 22 DSR, 23 DTR, 24 DCD, 25 EPad
text: USB/UART

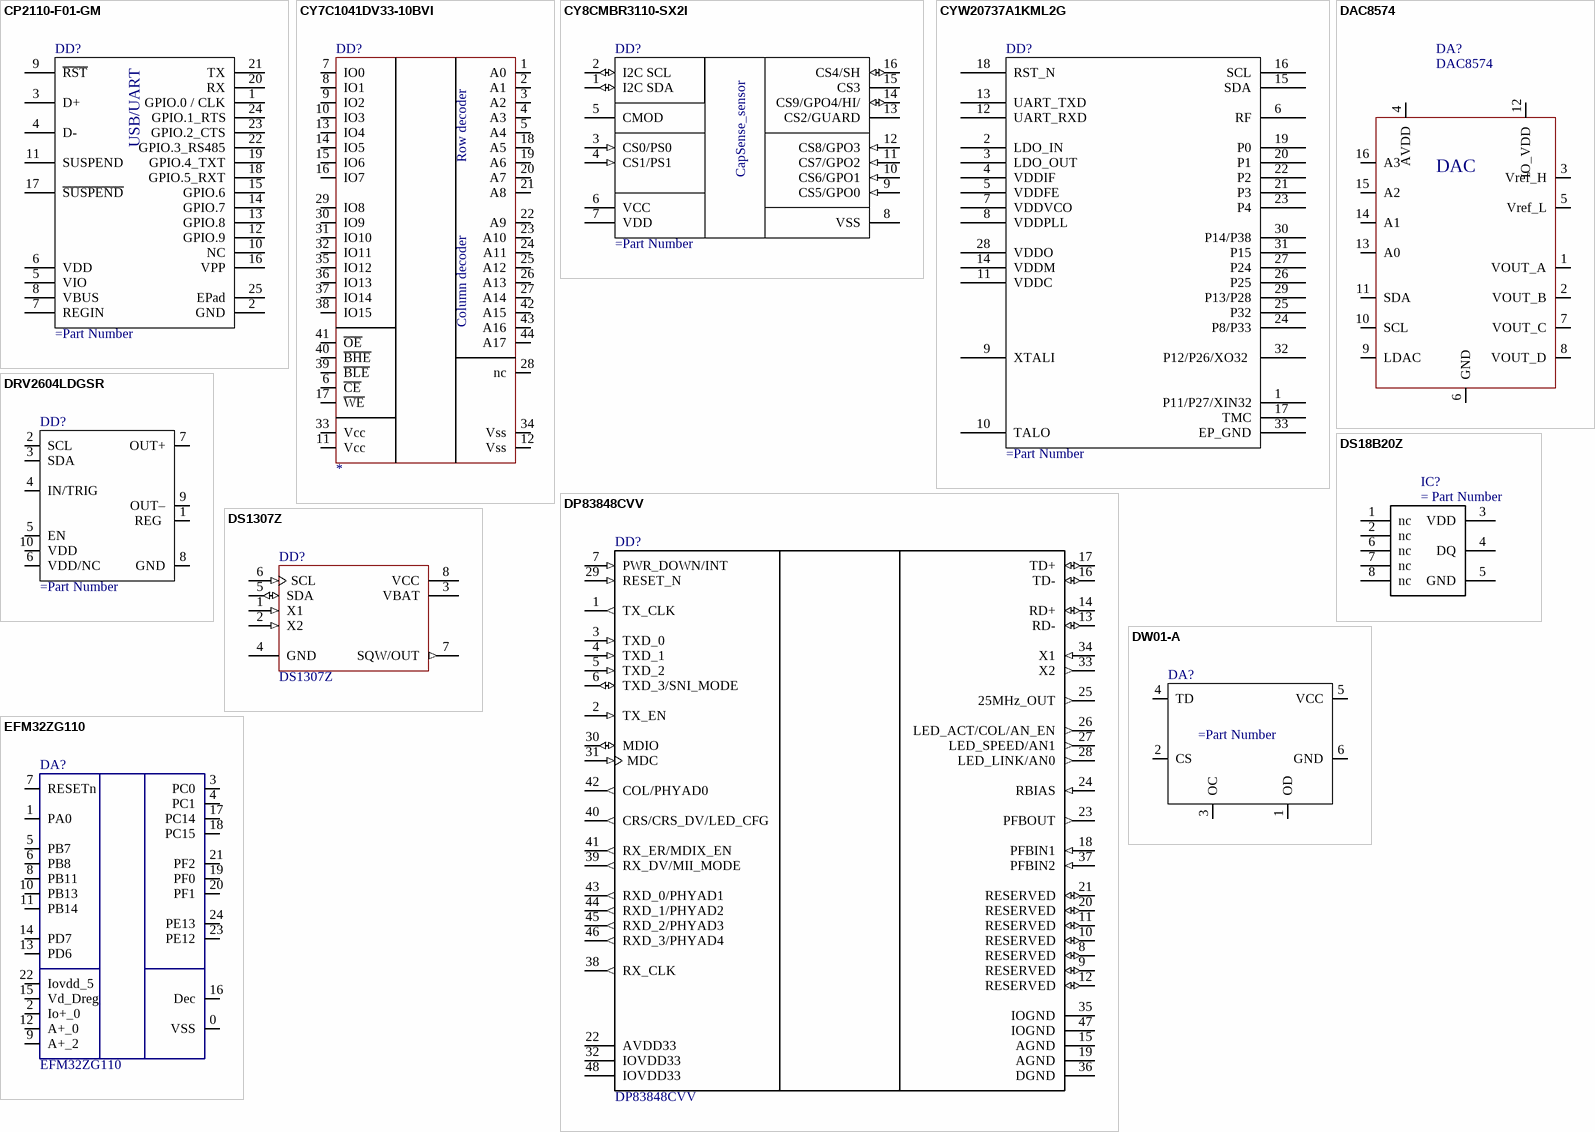
[diagram p7: symbols CP2110-F01-GM to EFM32ZG110]